# Altium schematic symbol library Components.SchLib: 216 symbols (part 1 of 2)
Pins are listed as number, name and electrical type; pins without a type are passive.

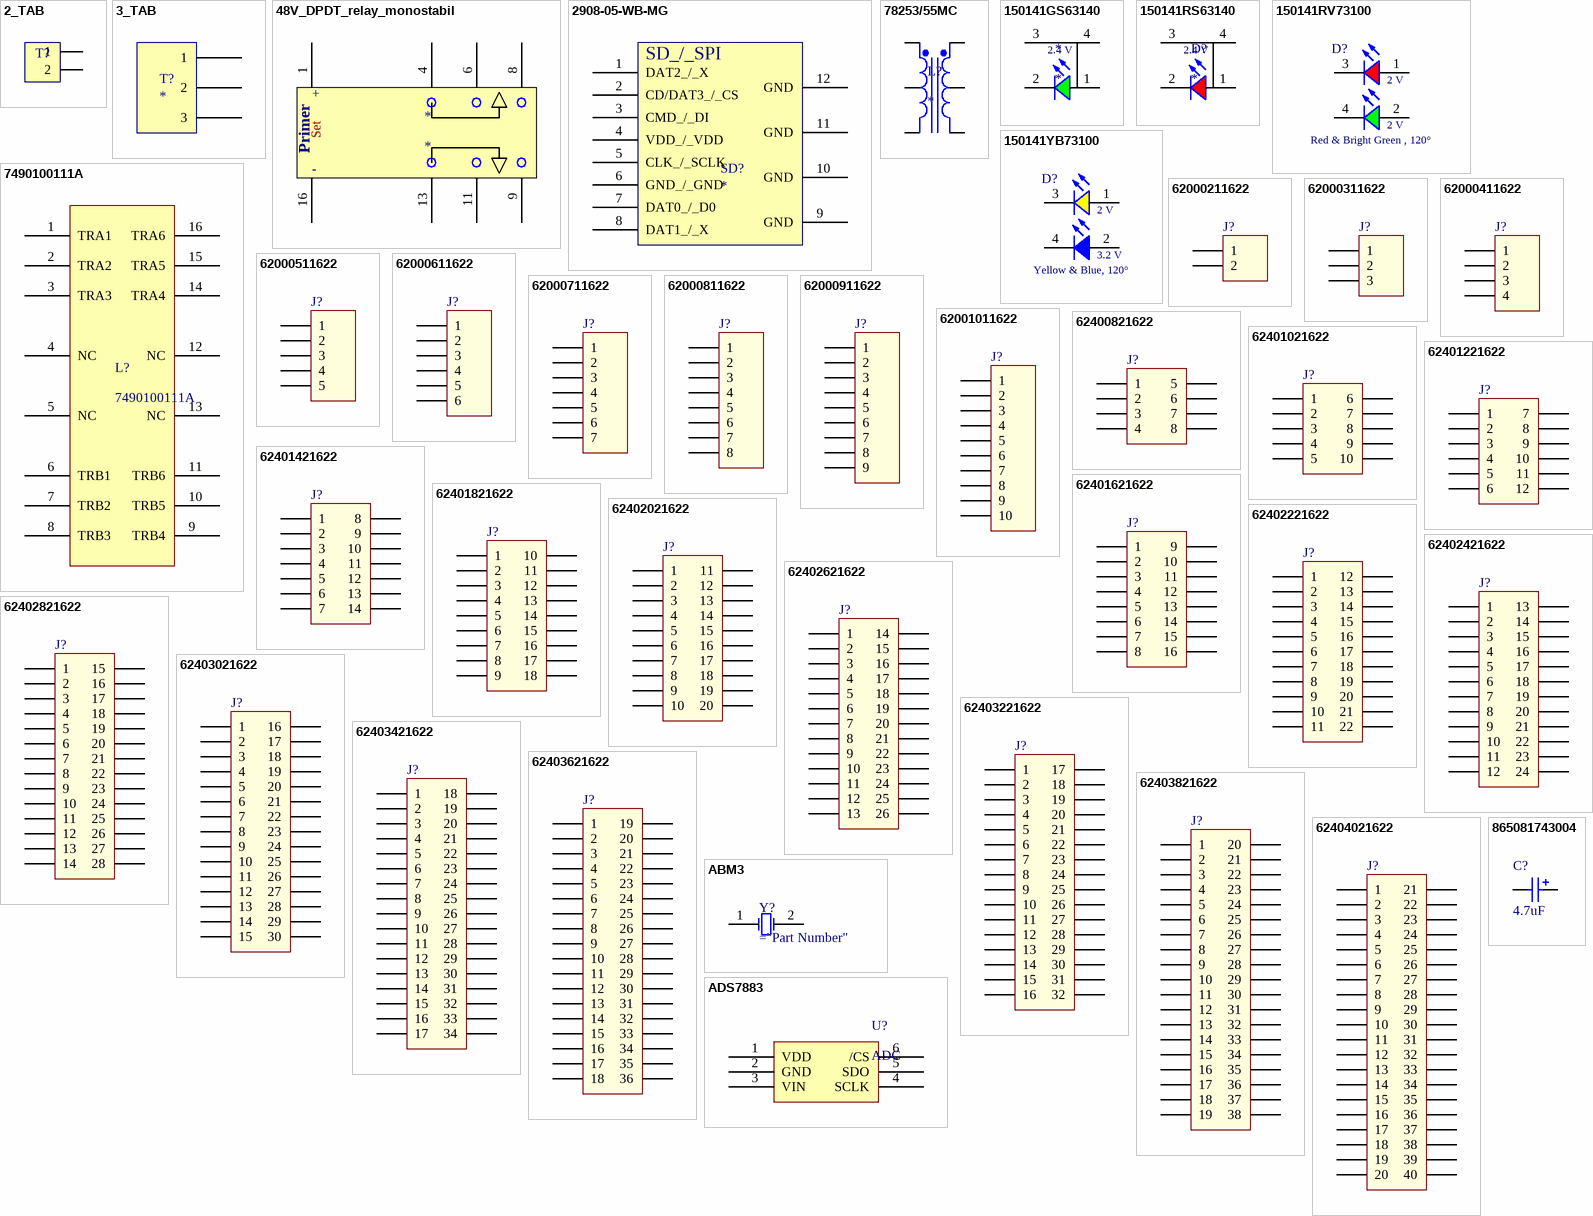
[diagram p0: symbols 2_TAB to ADS7883]

## 2_TAB
designator T?  (value not drawn)
pins: 1, 2

## 3_TAB
designator T?
footprint 3_Tab
pins: 1, 2, 3

## 48V_DPDT_relay_monostabil
designator *
footprint DPDT_48V_monostabil
pins: 1, 4, 6, 8, 9, 11, 13, 16
text: +; Set; Primer; -

## 2908-05-WB-MG
designator SD?
footprint microSD_cr
pins: 1 DAT2_/_X, 2 CD/DAT3_/_CS, 3 CMD_/_DI, 4 VDD_/_VDD, 5 CLK_/_SCLK, 6 GND_/_GND, 7 DAT0_/_D0, 8 DAT1_/_X, 9 GND, 10 GND, 11 GND, 12 GND
text: SD_/_SPI

## 78253/55MC
designator L?
pins: 1 Pri+, 2 PriCT, 3 Pri-, 4 Sec-, 5 SecCT, 6 Sec+

## 150141GS63140
designator *
footprint 150141RS63140
pins: 1 A, 2 K, 3 A, 4 A
text: 2.4 V

## 150141RS63140
designator D?
footprint 150141RS63140
pins: 1 A, 2 K, 3 A, 4 A
text: 2.4 V

## 150141RV73100
designator D?, comment Red & Bright Green , 120°
WL-SBTW SMD Bi-color TOP LED Waterclear, size 3528, Red & Bright Green , 120°; Part Number: 150141RV73100; Forward Voltage: 2 V@Red, 2 V@Bright Green; Peak Wavelength: 630 nm@Red, 572 nm@Bright Green; Dominant Wavelength: 625 nm@Red, 570 nm@Bright Green; Luminous Intensity: 250 mcd@Red, 60 mcd@Bright Green; ComponentLink1Description: Manufacturer; ComponentLink1URL: http://www.we-online.de; ComponentLink2Description: Datasheet; ComponentLink2URL: http://katalog.we-online.de/led/datasheet/150141RV73100.pdf; Published Date: May 2018; Publisher: Wurth Elektronik; Size: 3528; Viewing Angle: 120°; Operating Temperature: -40 to 85 degC; Emitting Color: Red & Bright Green; Mounting Technology: SMT
footprint WL-SBTW_3528
pins: 1 A, 2 A, 3 K, 4 K
text: 2 V

## 150141YB73100
designator D?, comment Yellow & Blue, 120°
WL-SBTW SMD Bi-color TOP LED Waterclear, size 3528, Yellow & Blue, 120°; Part Number: 150141YB73100; Forward Voltage: 3.2 V@Blue, 2 V@Yellow; Peak Wavelength: 465 nm@Blue, 592 nm@Yellow; Dominant Wavelength: 470 nm@Blue, 590 nm@Yellow; Luminous Intensity: 240 mcd@Blue, 220 mcd@Yellow; ComponentLink1Description: Manufacturer; ComponentLink1URL: http://www.we-online.de; ComponentLink2Description: Datasheet; ComponentLink2URL: http://katalog.we-online.de/led/datasheet/150141YB73100.pdf; Published Date: May 2018; Publisher: Wurth Elektronik; Size: 3528; Viewing Angle: 120°; Operating Temperature: -40 to 85 degC; Emitting Color: Yellow & Blue; Mounting Technology: SMT
footprint WL-SBTW_3528
pins: 1 A, 2 A, 3 K, 4 K
text: 2 V; 3.2 V

## 7490100111A
designator L?
LAN Transformer; Order number: 2401059; Distributor: Farnell; Link: http://hu.farnell.com/wurth-elektronik/7490100111a/lan-transformer-10-100-base-t/dp/2401059?ost=7490100111
footprint WE_LAN (SOP, 16-Leads, Body 12,80x5,30mm, Pitch 1,27mm, IPC Medium Density)
pins: 1 TRA1, 2 TRA2, 3 TRA3, 4 NC, 5 NC, 6 TRB1, 7 TRB2, 8 TRB3, 9 TRB4, 10 TRB5, 11 TRB6, 12 NC, 13 NC, 14 TRA4, 15 TRA5, 16 TRA6

## 62000211622
designator J?
WR-WTB 2.00mm Male Vertical Shrouded Header, 2p; Part Number: 62000211622; Pin Number: 2; ComponentLink1Description: Manufacturer; ComponentLink1URL: http://www.we-online.de; ComponentLink2Description: Datasheet; ComponentLink2URL: http://katalog.we-online.de/em/datasheet/6200xx11622.pdf; Published Date: June 2017; Publisher: Wurth Elektronik; Pitch: 2.00 mm
footprint 62000211622 (2.00mm Male Vertical Shrouded Header, 2p)
pins: 1, 2

## 62000311622
designator J?
WR-WTB 2.00mm Male Vertical Shrouded Header, 3p; Part Number: 62000311622; Pin Number: 3; ComponentLink1Description: Manufacturer; ComponentLink1URL: http://www.we-online.de; ComponentLink2Description: Datasheet; ComponentLink2URL: http://katalog.we-online.de/em/datasheet/6200xx11622.pdf; Published Date: June 2017; Publisher: Wurth Elektronik; Pitch: 2.00 mm
footprint 62000311622 (2.00mm Male Vertical Shrouded Header, 3p)
pins: 1, 2, 3

## 62000411622
designator J?
WR-WTB 2.00mm Male Vertical Shrouded Header, 4p; Part Number: 62000411622; Pin Number: 4; ComponentLink1Description: Manufacturer; ComponentLink1URL: http://www.we-online.de; ComponentLink2Description: Datasheet; ComponentLink2URL: http://katalog.we-online.de/em/datasheet/6200xx11622.pdf; Published Date: June 2017; Publisher: Wurth Elektronik; Pitch: 2.00 mm
footprint 62000411622 (2.00mm Male Vertical Shrouded Header, 4p)
pins: 1, 2, 3, 4

## 62000511622
designator J?
WR-WTB 2.00mm Male Vertical Shrouded Header, 5p; Part Number: 62000511622; Pin Number: 5; ComponentLink1Description: Manufacturer; ComponentLink1URL: http://www.we-online.de; ComponentLink2Description: Datasheet; ComponentLink2URL: http://katalog.we-online.de/em/datasheet/6200xx11622.pdf; Published Date: June 2017; Publisher: Wurth Elektronik; Pitch: 2.00 mm
footprint 62000511622 (2.00mm Male Vertical Shrouded Header, 5p)
pins: 1, 2, 3, 4, 5

## 62000611622
designator J?
WR-WTB 2.00mm Male Vertical Shrouded Header, 6p; Part Number: 62000611622; Pin Number: 6; ComponentLink1Description: Manufacturer; ComponentLink1URL: http://www.we-online.de; ComponentLink2Description: Datasheet; ComponentLink2URL: http://katalog.we-online.de/em/datasheet/6200xx11622.pdf; Published Date: June 2017; Publisher: Wurth Elektronik; Pitch: 2.00 mm
footprint 62000611622 (2.00mm Male Vertical Shrouded Header, 6p)
pins: 1, 2, 3, 4, 5, 6

## 62000711622
designator J?
WR-WTB 2.00mm Male Vertical Shrouded Header, 7p; Part Number: 62000711622; Pin Number: 7; ComponentLink1Description: Manufacturer; ComponentLink1URL: http://www.we-online.de; ComponentLink2Description: Datasheet; ComponentLink2URL: http://katalog.we-online.de/em/datasheet/6200xx11622.pdf; Published Date: June 2017; Publisher: Wurth Elektronik; Pitch: 2.00 mm
footprint 62000711622 (2.00mm Male Vertical Shrouded Header, 7p)
pins: 1, 2, 3, 4, 5, 6, 7

## 62000811622
designator J?
WR-WTB 2.00mm Male Vertical Shrouded Header, 8p; Part Number: 62000811622; Pin Number: 8; ComponentLink1Description: Manufacturer; ComponentLink1URL: http://www.we-online.de; ComponentLink2Description: Datasheet; ComponentLink2URL: http://katalog.we-online.de/em/datasheet/6200xx11622.pdf; Published Date: June 2017; Publisher: Wurth Elektronik; Pitch: 2.00 mm
footprint 62000811622 (2.00mm Male Vertical Shrouded Header, 8p)
pins: 1, 2, 3, 4, 5, 6, 7, 8

## 62000911622
designator J?
WR-WTB 2.00mm Male Vertical Shrouded Header, 9p; Part Number: 62000911622; Pin Number: 9; ComponentLink1Description: Manufacturer; ComponentLink1URL: http://www.we-online.de; ComponentLink2Description: Datasheet; ComponentLink2URL: http://katalog.we-online.de/em/datasheet/6200xx11622.pdf; Published Date: June 2017; Publisher: Wurth Elektronik; Pitch: 2.00 mm
footprint 62000911622 (2.00mm Male Vertical Shrouded Header, 9p)
pins: 1, 2, 3, 4, 5, 6, 7, 8, 9

## 62001011622
designator J?
WR-WTB 2.00mm Male Vertical Shrouded Header, 10p; Part Number: 62001011622; Pin Number: 10; ComponentLink1Description: Manufacturer; ComponentLink1URL: http://www.we-online.de; ComponentLink2Description: Datasheet; ComponentLink2URL: http://katalog.we-online.de/em/datasheet/6200xx11622.pdf; Published Date: June 2017; Publisher: Wurth Elektronik; Pitch: 2.00 mm
footprint 62001011622 (2.00mm Male Vertical Shrouded Header, 10p)
pins: 1, 2, 3, 4, 5, 6, 7, 8, 9, 10

## 62400821622
designator J?
WR-WTB 2.00mm Male Dual Row Vertical Shrouded Header with positive locking, 8p; Part Number: 62400821622; Pin Number: 8; ComponentLink1Description: Manufacturer; ComponentLink1URL: http://www.we-online.de; ComponentLink2Description: Datasheet; ComponentLink2URL: http://katalog.we-online.de/em/datasheet/6240xx21622.pdf; Published Date: June 2017; Publisher: Wurth Elektronik; Pitch: 2.00 mm
footprint 62400821622 (2.00mm Male Dual Row Vertical Shrouded Header with positive locking, 8p)
pins: 1, 2, 3, 4, 5, 6, 7, 8

## 62401021622
designator J?
WR-WTB 2.00mm Male Dual Row Vertical Shrouded Header with positive locking, 10p; Part Number: 62401021622; Pin Number: 10; ComponentLink1Description: Manufacturer; ComponentLink1URL: http://www.we-online.de; ComponentLink2Description: Datasheet; ComponentLink2URL: http://katalog.we-online.de/em/datasheet/6240xx21622.pdf; Published Date: June 2017; Publisher: Wurth Elektronik; Pitch: 2.00 mm
footprint 62401021622 (2.00mm Male Dual Row Vertical Shrouded Header with positive locking, 10p)
pins: 1, 2, 3, 4, 5, 6, 7, 8, 9, 10

## 62401221622
designator J?
WR-WTB 2.00mm Male Dual Row Vertical Shrouded Header with positive locking, 12p; Part Number: 62401221622; Pin Number: 12; ComponentLink1Description: Manufacturer; ComponentLink1URL: http://www.we-online.de; ComponentLink2Description: Datasheet; ComponentLink2URL: http://katalog.we-online.de/em/datasheet/6240xx21622.pdf; Published Date: June 2017; Publisher: Wurth Elektronik; Pitch: 2.00 mm
footprint 62401221622 (2.00mm Male Dual Row Vertical Shrouded Header with positive locking, 12p)
pins: 1, 2, 3, 4, 5, 6, 7, 8, 9, 10, 11, 12

## 62401421622
designator J?
WR-WTB 2.00mm Male Dual Row Vertical Shrouded Header with positive locking, 14p; Part Number: 62401421622; Pin Number: 14; ComponentLink1Description: Manufacturer; ComponentLink1URL: http://www.we-online.de; ComponentLink2Description: Datasheet; ComponentLink2URL: http://katalog.we-online.de/em/datasheet/6240xx21622.pdf; Published Date: June 2017; Publisher: Wurth Elektronik; Pitch: 2.00 mm
footprint 62401421622 (2.00mm Male Dual Row Vertical Shrouded Header with positive locking, 14p)
pins: 1, 2, 3, 4, 5, 6, 7, 8, 9, 10, 11, 12, 13, 14

## 62401621622
designator J?
WR-WTB 2.00mm Male Dual Row Vertical Shrouded Header with positive locking, 16p; Part Number: 62401621622; Pin Number: 16; ComponentLink1Description: Manufacturer; ComponentLink1URL: http://www.we-online.de; ComponentLink2Description: Datasheet; ComponentLink2URL: http://katalog.we-online.de/em/datasheet/6240xx21622.pdf; Published Date: June 2017; Publisher: Wurth Elektronik; Pitch: 2.00 mm
footprint 62401621622 (2.00mm Male Dual Row Vertical Shrouded Header with positive locking, 16p)
pins: 1, 2, 3, 4, 5, 6, 7, 8, 9, 10, 11, 12, 13, 14, 15, 16

## 62401821622
designator J?
WR-WTB 2.00mm Male Dual Row Vertical Shrouded Header with positive locking, 18p; Part Number: 62401821622; Pin Number: 18; ComponentLink1Description: Manufacturer; ComponentLink1URL: http://www.we-online.de; ComponentLink2Description: Datasheet; ComponentLink2URL: http://katalog.we-online.de/em/datasheet/6240xx21622.pdf; Published Date: June 2017; Publisher: Wurth Elektronik; Pitch: 2.00 mm
footprint 62401821622 (2.00mm Male Dual Row Vertical Shrouded Header with positive locking, 18p)
pins: 1, 2, 3, 4, 5, 6, 7, 8, 9, 10, 11, 12, 13, 14, 15, 16, 17, 18

## 62402021622
designator J?
WR-WTB 2.00mm Male Dual Row Vertical Shrouded Header with positive locking, 20p; Part Number: 62402021622; Pin Number: 20; ComponentLink1Description: Manufacturer; ComponentLink1URL: http://www.we-online.de; ComponentLink2Description: Datasheet; ComponentLink2URL: http://katalog.we-online.de/em/datasheet/6240xx21622.pdf; Published Date: June 2017; Publisher: Wurth Elektronik; Pitch: 2.00 mm
footprint 62402021622 (2.00mm Male Dual Row Vertical Shrouded Header with positive locking, 20p)
pins: 1, 2, 3, 4, 5, 6, 7, 8, 9, 10, 11, 12, 13, 14, 15, 16, 17, 18, 19, 20

## 62402221622
designator J?
WR-WTB 2.00mm Male Dual Row Vertical Shrouded Header with positive locking, 22p; Part Number: 62402221622; Pin Number: 22; ComponentLink1Description: Manufacturer; ComponentLink1URL: http://www.we-online.de; ComponentLink2Description: Datasheet; ComponentLink2URL: http://katalog.we-online.de/em/datasheet/6240xx21622.pdf; Published Date: June 2017; Publisher: Wurth Elektronik; Pitch: 2.00 mm
footprint 62402221622 (2.00mm Male Dual Row Vertical Shrouded Header with positive locking, 22p)
pins: 1, 2, 3, 4, 5, 6, 7, 8, 9, 10, 11, 12, 13, 14, 15, 16, 17, 18, 19, 20, 21, 22

## 62402421622
designator J?
WR-WTB 2.00mm Male Dual Row Vertical Shrouded Header with positive locking, 24p; Part Number: 62402421622; Pin Number: 24; ComponentLink1Description: Manufacturer; ComponentLink1URL: http://www.we-online.de; ComponentLink2Description: Datasheet; ComponentLink2URL: http://katalog.we-online.de/em/datasheet/6240xx21622.pdf; Published Date: June 2017; Publisher: Wurth Elektronik; Pitch: 2.00 mm
footprint 62402421622 (2.00mm Male Dual Row Vertical Shrouded Header with positive locking, 24p)
pins: 1, 2, 3, 4, 5, 6, 7, 8, 9, 10, 11, 12, 13, 14, 15, 16, 17, 18, 19, 20, 21, 22, 23, 24

## 62402621622
designator J?
WR-WTB 2.00mm Male Dual Row Vertical Shrouded Header with positive locking, 26p; Part Number: 62402621622; Pin Number: 26; ComponentLink1Description: Manufacturer; ComponentLink1URL: http://www.we-online.de; ComponentLink2Description: Datasheet; ComponentLink2URL: http://katalog.we-online.de/em/datasheet/6240xx21622.pdf; Published Date: June 2017; Publisher: Wurth Elektronik; Pitch: 2.00 mm
footprint 62402621622 (2.00mm Male Dual Row Vertical Shrouded Header with positive locking, 26p)
pins: 1, 2, 3, 4, 5, 6, 7, 8, 9, 10, 11, 12, 13, 14, 15, 16, 17, 18, 19, 20, 21, 22, 23, 24, 25, 26

## 62402821622
designator J?
WR-WTB 2.00mm Male Dual Row Vertical Shrouded Header with positive locking, 28p; Part Number: 62402821622; Pin Number: 28; ComponentLink1Description: Manufacturer; ComponentLink1URL: http://www.we-online.de; ComponentLink2Description: Datasheet; ComponentLink2URL: http://katalog.we-online.de/em/datasheet/6240xx21622.pdf; Published Date: June 2017; Publisher: Wurth Elektronik; Pitch: 2.00 mm
footprint 62402821622 (2.00mm Male Dual Row Vertical Shrouded Header with positive locking, 28p)
pins: 1, 2, 3, 4, 5, 6, 7, 8, 9, 10, 11, 12, 13, 14, 15, 16, 17, 18, 19, 20, 21, 22, 23, 24, 25, 26, 27, 28

## 62403021622
designator J?
WR-WTB 2.00mm Male Dual Row Vertical Shrouded Header with positive locking, 30p; Part Number: 62403021622; Pin Number: 30; ComponentLink1Description: Manufacturer; ComponentLink1URL: http://www.we-online.de; ComponentLink2Description: Datasheet; ComponentLink2URL: http://katalog.we-online.de/em/datasheet/6240xx21622.pdf; Published Date: June 2017; Publisher: Wurth Elektronik; Pitch: 2.00 mm
footprint 62403021622 (2.00mm Male Dual Row Vertical Shrouded Header with positive locking, 30p)
pins: 1, 2, 3, 4, 5, 6, 7, 8, 9, 10, 11, 12, 13, 14, 15, 16, 17, 18, 19, 20, 21, 22, 23, 24, 25, 26, 27, 28, 29, 30

## 62403221622
designator J?
WR-WTB 2.00mm Male Dual Row Vertical Shrouded Header with positive locking, 32p; Part Number: 62403221622; Pin Number: 32; ComponentLink1Description: Manufacturer; ComponentLink1URL: http://www.we-online.de; ComponentLink2Description: Datasheet; ComponentLink2URL: http://katalog.we-online.de/em/datasheet/6240xx21622.pdf; Published Date: June 2017; Publisher: Wurth Elektronik; Pitch: 2.00 mm
footprint 62403221622 (2.00mm Male Dual Row Vertical Shrouded Header with positive locking, 32p)
pins: 1, 2, 3, 4, 5, 6, 7, 8, 9, 10, 11, 12, 13, 14, 15, 16, 17, 18, 19, 20, 21, 22, 23, 24, 25, 26, 27, 28, 29, 30, 31, 32

## 62403421622
designator J?
WR-WTB 2.00mm Male Dual Row Vertical Shrouded Header with positive locking, 34p; Part Number: 62403421622; Pin Number: 34; ComponentLink1Description: Manufacturer; ComponentLink1URL: http://www.we-online.de; ComponentLink2Description: Datasheet; ComponentLink2URL: http://katalog.we-online.de/em/datasheet/6240xx21622.pdf; Published Date: June 2017; Publisher: Wurth Elektronik; Pitch: 2.00 mm
footprint 62403421622 (2.00mm Male Dual Row Vertical Shrouded Header with positive locking, 34p)
pins: 1, 2, 3, 4, 5, 6, 7, 8, 9, 10, 11, 12, 13, 14, 15, 16, 17, 18, 19, 20, 21, 22, 23, 24, 25, 26, 27, 28, 29, 30, 31, 32, 33, 34

## 62403621622
designator J?
WR-WTB 2.00mm Male Dual Row Vertical Shrouded Header with positive locking, 36p; Part Number: 62403621622; Pin Number: 36; ComponentLink1Description: Manufacturer; ComponentLink1URL: http://www.we-online.de; ComponentLink2Description: Datasheet; ComponentLink2URL: http://katalog.we-online.de/em/datasheet/6240xx21622.pdf; Published Date: June 2017; Publisher: Wurth Elektronik; Pitch: 2.00 mm
footprint 62403621622 (2.00mm Male Dual Row Vertical Shrouded Header with positive locking, 36p)
pins: 1, 2, 3, 4, 5, 6, 7, 8, 9, 10, 11, 12, 13, 14, 15, 16, 17, 18, 19, 20, 21, 22, 23, 24, 25, 26, 27, 28, 29, 30, 31, 32, 33, 34, 35, 36

## 62403821622
designator J?
WR-WTB 2.00mm Male Dual Row Vertical Shrouded Header with positive locking, 38p; Part Number: 62403821622; Pin Number: 38; ComponentLink1Description: Manufacturer; ComponentLink1URL: http://www.we-online.de; ComponentLink2Description: Datasheet; ComponentLink2URL: http://katalog.we-online.de/em/datasheet/6240xx21622.pdf; Published Date: June 2017; Publisher: Wurth Elektronik; Pitch: 2.00 mm
footprint 62403821622 (2.00mm Male Dual Row Vertical Shrouded Header with positive locking, 38p)
pins: 1, 2, 3, 4, 5, 6, 7, 8, 9, 10, 11, 12, 13, 14, 15, 16, 17, 18, 19, 20, 21, 22, 23, 24, 25, 26, 27, 28, 29, 30, 31, 32, 33, 34, 35, 36, 37, 38

## 62404021622
designator J?
WR-WTB 2.00mm Male Dual Row Vertical Shrouded Header with positive locking, 40p; Part Number: 62404021622; Pin Number: 40; ComponentLink1Description: Manufacturer; ComponentLink1URL: http://www.we-online.de; ComponentLink2Description: Datasheet; ComponentLink2URL: http://katalog.we-online.de/em/datasheet/6240xx21622.pdf; Published Date: June 2017; Publisher: Wurth Elektronik; Pitch: 2.00 mm
footprint 62404021622 (2.00mm Male Dual Row Vertical Shrouded Header with positive locking, 40p)
pins: 1, 2, 3, 4, 5, 6, 7, 8, 9, 10, 11, 12, 13, 14, 15, 16, 17, 18, 19, 20, 21, 22, 23, 24, 25, 26, 27, 28, 29, 30, 31, 32, 33, 34, 35, 36, 37, 38, 39, 40

## 865081743004
designator C?  value 4.7uF
WCAP-ASLI Aluminum Electrolytic Capacitors, size Ф6.3x5.5mm, 80V DC, 4.7uF; Part Number: 865081743004; Rated Voltage: 80V DC; ComponentLink1Description: Manufacturer; ComponentLink1URL: http://www.we-online.de; ComponentLink2Description: Datasheet; ComponentLink2URL: http://katalog.we-online.de/pbs/datasheet/865081743004.pdf; Published Date: June 2017; Publisher: Wurth Elektronik; Size: Ф6.3x5.5mm; Life Cycle: 2000h; Operating Temperature: -55 °C up to +105 °C
footprint WCAP-ASLI_6.3x5.5
pins: 1 P, 2 N

## ABM3
designator Y?
footprint QUARZ_3
pins: 1 OSC1, 2 OSC2

## ADS7883
designator U?, comment ADC
Value: 2.7-5.5 V; Distributor: Farnell; Type: ADS7883SBDBVT
footprint SOP6_ADS7883
pins: 1 VDD, 2 GND, 3 VIN, 4 SCLK, 5 SDO, 6 /CS

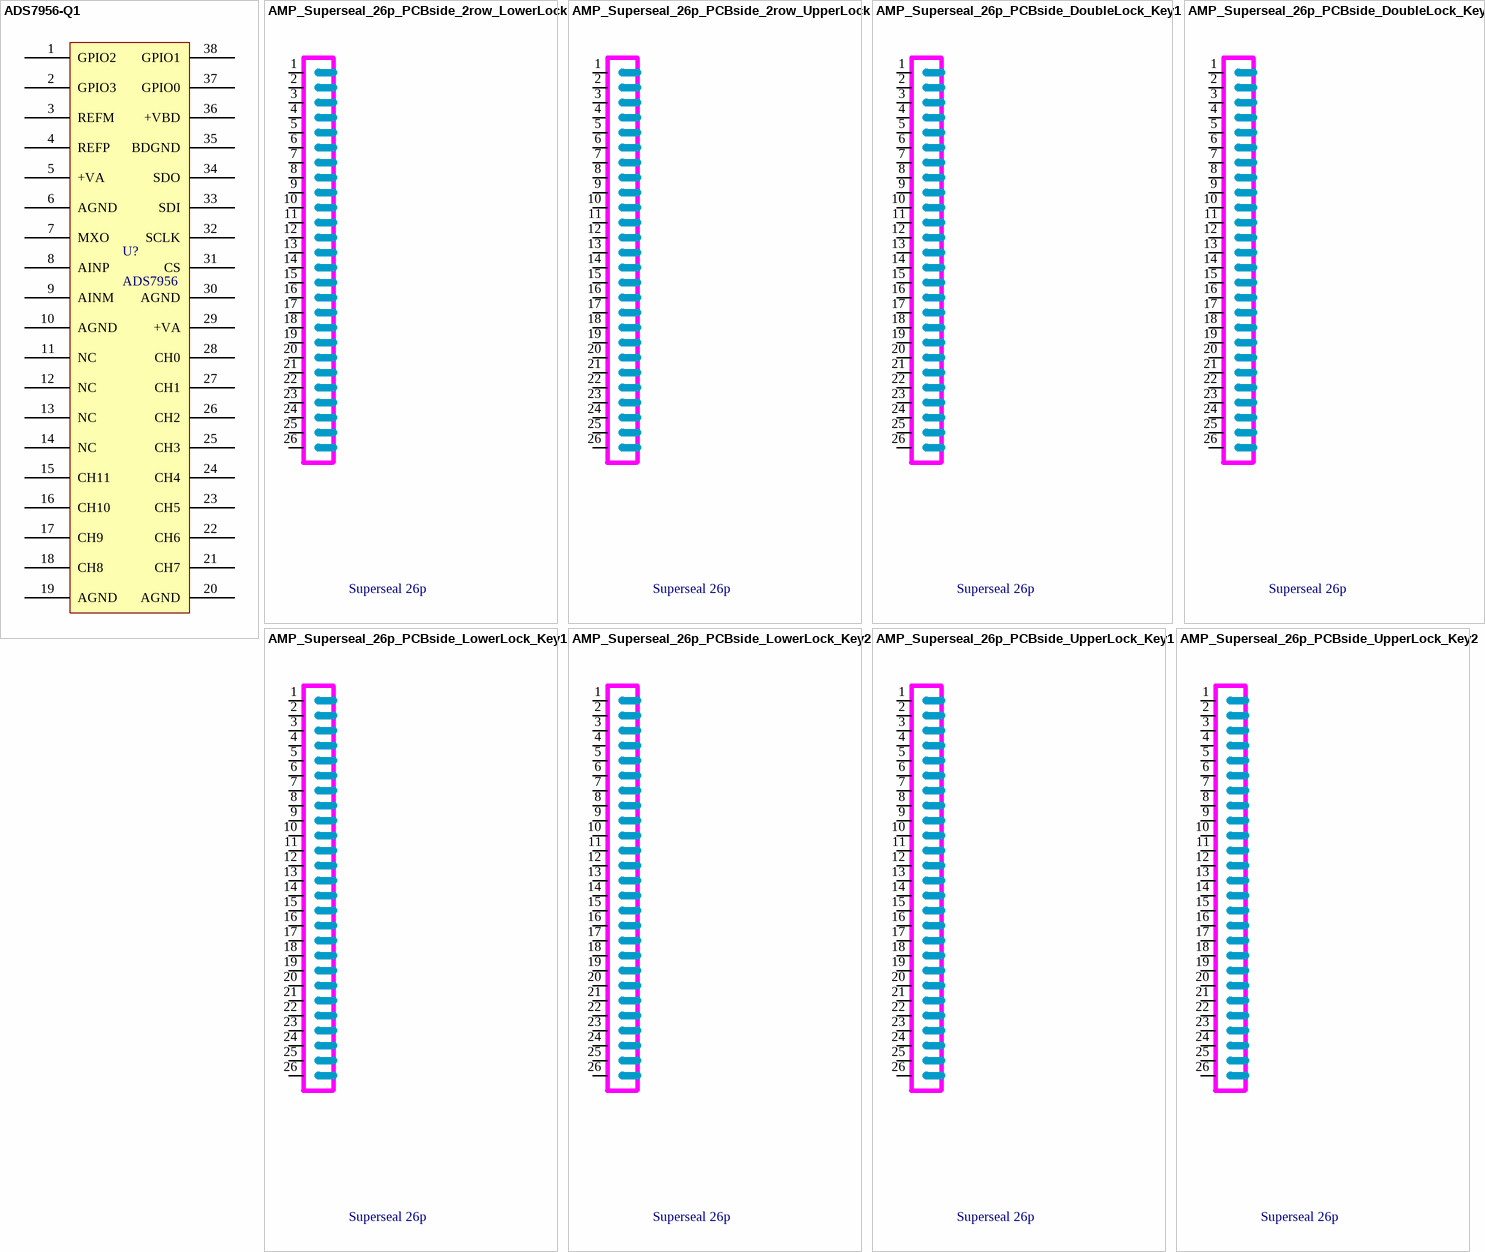
[diagram p1: symbols ADS7956-Q1 to AMP_Superseal_26p_PCBside_UpperLock_Key2]

## ADS7956-Q1
designator U?, comment ADS7956
12 channel 10bit SPI ADC
footprint TSSOP-38
pins: 1 GPIO2, 2 GPIO3, 3 REFM, 4 REFP, 5 +VA, 6 AGND, 7 MXO, 8 AINP, 9 AINM, 10 AGND, 11 NC, 12 NC, 13 NC, 14 NC, 15 CH11, 16 CH10, 17 CH9, 18 CH8, 19 AGND, 20 AGND, 21 CH7, 22 CH6, 23 CH5, 24 CH4, 25 CH3, 26 CH2, 27 CH1, 28 CH0, 29 +VA, 30 AGND, 31 CS, 32 SCLK, 33 SDI, 34 SDO, 35 BDGND, 36 +VBD, 37 GPIO0, 38 GPIO1

## AMP_Superseal_26p_PCBside_2row_LowerLock
designator ?, comment Superseal 26p
26-pin female 90°; Link: -
footprint AMP_Superseal_26p_PCBside
pins: 1, 2, 3, 4, 5, 6, 7, 8, 9, 10, 11, 12, 13, 14, 15, 16, 17, 18, 19, 20, 21, 22, 23, 24, 25, 26

## AMP_Superseal_26p_PCBside_2row_UpperLock
designator ?, comment Superseal 26p
26-pin female 90°; Link: http://hu.mouser.com/ProductDetail/TE-Connectivity/6473711-1/?qs=%2fha2pyFaduheAnAzZY2Y8xL1t1OnJIkG6htWsAoZtFI%3d
footprint AMP_Superseal_26p_PCBside
pins: 1, 2, 3, 4, 5, 6, 7, 8, 9, 10, 11, 12, 13, 14, 15, 16, 17, 18, 19, 20, 21, 22, 23, 24, 25, 26

## AMP_Superseal_26p_PCBside_DoubleLock_Key1
designator ?, comment Superseal 26p
26-pin female 90°; Link: -
footprint AMP_Superseal_26p_PCBside
pins: 1, 2, 3, 4, 5, 6, 7, 8, 9, 10, 11, 12, 13, 14, 15, 16, 17, 18, 19, 20, 21, 22, 23, 24, 25, 26

## AMP_Superseal_26p_PCBside_DoubleLock_Key2
designator ?, comment Superseal 26p
26-pin female 90°; Link: -
footprint AMP_Superseal_26p_PCBside
pins: 1, 2, 3, 4, 5, 6, 7, 8, 9, 10, 11, 12, 13, 14, 15, 16, 17, 18, 19, 20, 21, 22, 23, 24, 25, 26

## AMP_Superseal_26p_PCBside_LowerLock_Key1
designator ?, comment Superseal 26p
26-pin female 90°; Link: http://hu.mouser.com/ProductDetail/TE-Connectivity/5-6447223-0/?qs=%2fha2pyFadugaSrtBz1p3Kykm1fV5S7ts3MlqB%252bSfNmr01l6x3CZIKQ%3d%3d
footprint AMP_Superseal_26p_PCBside
pins: 1, 2, 3, 4, 5, 6, 7, 8, 9, 10, 11, 12, 13, 14, 15, 16, 17, 18, 19, 20, 21, 22, 23, 24, 25, 26

## AMP_Superseal_26p_PCBside_LowerLock_Key2
designator ?, comment Superseal 26p
26-pin female 90°; Link: http://hu.rs-online.com/web/p/jarmuipari-csatlakozok/7267011/
footprint AMP_Superseal_26p_PCBside
pins: 1, 2, 3, 4, 5, 6, 7, 8, 9, 10, 11, 12, 13, 14, 15, 16, 17, 18, 19, 20, 21, 22, 23, 24, 25, 26

## AMP_Superseal_26p_PCBside_UpperLock_Key1
designator ?, comment Superseal 26p
26-pin female 90°; Link: http://hu.mouser.com/ProductDetail/TE-Connectivity/9-6437287-8/?qs=c1ErmWplw0NzPHbjoONVkQ%3D%3D
footprint AMP_Superseal_26p_PCBside
pins: 1, 2, 3, 4, 5, 6, 7, 8, 9, 10, 11, 12, 13, 14, 15, 16, 17, 18, 19, 20, 21, 22, 23, 24, 25, 26

## AMP_Superseal_26p_PCBside_UpperLock_Key2
designator ?, comment Superseal 26p
26-pin female 90°; Link: -
footprint AMP_Superseal_26p_PCBside
pins: 1, 2, 3, 4, 5, 6, 7, 8, 9, 10, 11, 12, 13, 14, 15, 16, 17, 18, 19, 20, 21, 22, 23, 24, 25, 26

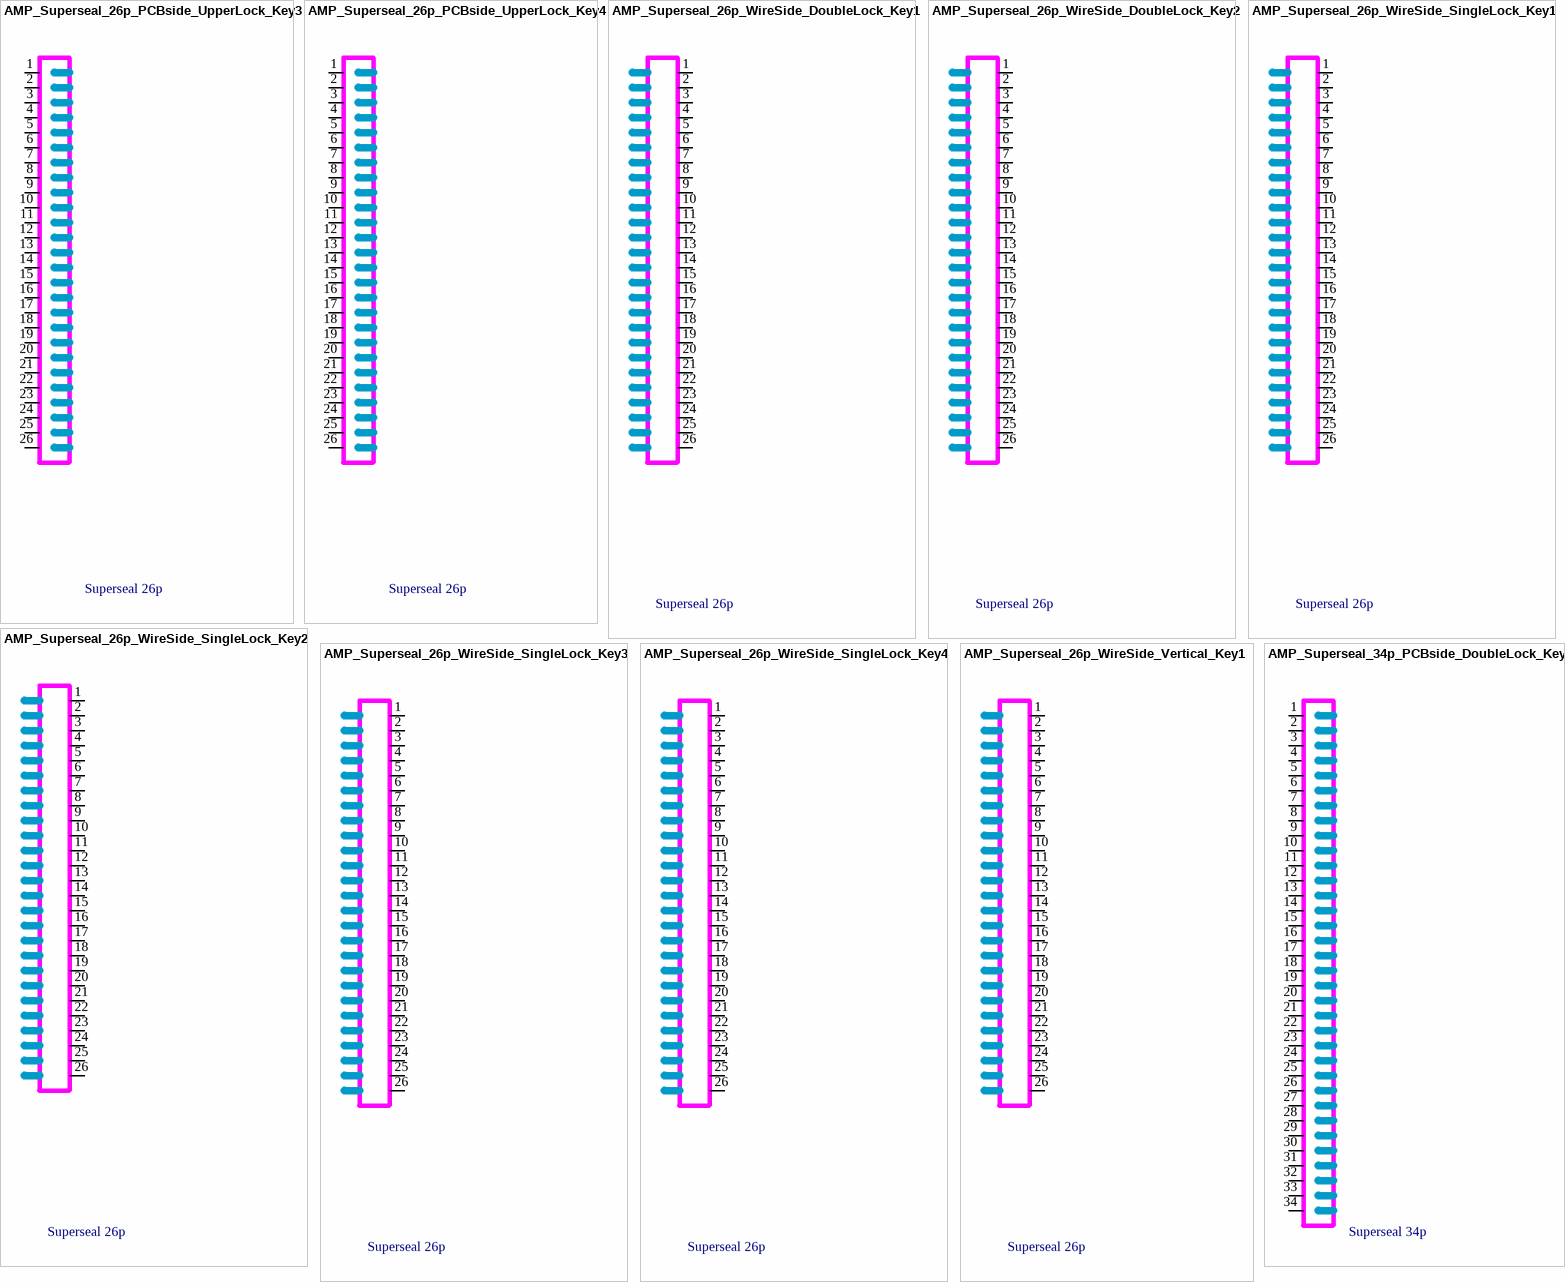
[diagram p2: symbols AMP_Superseal_26p_PCBside_UpperLock_Key3 to AMP_Superseal_34p_PCBside_DoubleLock_Key1]

## AMP_Superseal_26p_PCBside_UpperLock_Key3
designator ?, comment Superseal 26p
26-pin female 90°; Link: http://hu.mouser.com/ProductDetail/TE-Connectivity/6473423-1/?qs=%2fha2pyFadujLL66EJJj4izXF%2fFK4T0Wv5yo6JIzFFQY%3d
footprint AMP_Superseal_26p_PCBside
pins: 1, 2, 3, 4, 5, 6, 7, 8, 9, 10, 11, 12, 13, 14, 15, 16, 17, 18, 19, 20, 21, 22, 23, 24, 25, 26

## AMP_Superseal_26p_PCBside_UpperLock_Key4
designator ?, comment Superseal 26p
26-pin female 90°; Link: http://hu.mouser.com/ProductDetail/TE-Connectivity/6473423-2/?qs=%2fha2pyFadujLL66EJJj4i%252bYWEHLpIptHqxdYdAgAYZI%3d
footprint AMP_Superseal_26p_PCBside
pins: 1, 2, 3, 4, 5, 6, 7, 8, 9, 10, 11, 12, 13, 14, 15, 16, 17, 18, 19, 20, 21, 22, 23, 24, 25, 26

## AMP_Superseal_26p_WireSide_DoubleLock_Key1
designator ?, comment Superseal 26p
26-pin male; Link: http://hu.mouser.com/ProductDetail/TE-Connectivity/2-1437285-2/?qs=Xogt1k6fyayozpJGm7SMyg%3D%3D
pins: 1, 2, 3, 4, 5, 6, 7, 8, 9, 10, 11, 12, 13, 14, 15, 16, 17, 18, 19, 20, 21, 22, 23, 24, 25, 26

## AMP_Superseal_26p_WireSide_DoubleLock_Key2
designator ?, comment Superseal 26p
26-pin male; Link: http://hu.mouser.com/ProductDetail/TE-Connectivity/1-1447232-7/?qs=4GfDZFxiN8uIGFEMbzQihw%3D%3D
pins: 1, 2, 3, 4, 5, 6, 7, 8, 9, 10, 11, 12, 13, 14, 15, 16, 17, 18, 19, 20, 21, 22, 23, 24, 25, 26

## AMP_Superseal_26p_WireSide_SingleLock_Key1
designator ?, comment Superseal 26p
26-pin male; Link: http://hu.mouser.com/ProductDetail/TE-Connectivity/3-1437290-7/?qs=MvPdH6bTHug3KT6%252boOdaYA%3D%3D
pins: 1, 2, 3, 4, 5, 6, 7, 8, 9, 10, 11, 12, 13, 14, 15, 16, 17, 18, 19, 20, 21, 22, 23, 24, 25, 26

## AMP_Superseal_26p_WireSide_SingleLock_Key2
designator ?, comment Superseal 26p
26-pin male; Link: http://hu.mouser.com/ProductDetail/TE-Connectivity/3-1437290-8/?qs=%2fha2pyFadui05r4MGdH%2ffivKt%2fxc6Aud3fn8aKCDTUwDexfwysuKVg%3d%3d
pins: 1, 2, 3, 4, 5, 6, 7, 8, 9, 10, 11, 12, 13, 14, 15, 16, 17, 18, 19, 20, 21, 22, 23, 24, 25, 26

## AMP_Superseal_26p_WireSide_SingleLock_Key3
designator ?, comment Superseal 26p
26-pin male; Link: http://hu.mouser.com/ProductDetail/TE-Connectivity/1473416-1/?qs=%2fha2pyFaduhM7dIpQL5rOGJOMlTSbXIdyrdshl6NNZM%3d
pins: 1, 2, 3, 4, 5, 6, 7, 8, 9, 10, 11, 12, 13, 14, 15, 16, 17, 18, 19, 20, 21, 22, 23, 24, 25, 26

## AMP_Superseal_26p_WireSide_SingleLock_Key4
designator ?, comment Superseal 26p
26-pin male; Link: http://hu.mouser.com/ProductDetail/TE-Connectivity-AMP/1473416-2/?qs=iaprbs8w3G%2FdF2aqZdsNOQ%3D%3D
pins: 1, 2, 3, 4, 5, 6, 7, 8, 9, 10, 11, 12, 13, 14, 15, 16, 17, 18, 19, 20, 21, 22, 23, 24, 25, 26

## AMP_Superseal_26p_WireSide_Vertical_Key1
designator ?, comment Superseal 26p
26-pin male; Link: http://hu.mouser.com/ProductDetail/TE-Connectivity/1473712-1/?qs=%2fha2pyFadujGThRcnxNs5NF%2fs17tPo4hg9iKeP%2fTOwM%3d
pins: 1, 2, 3, 4, 5, 6, 7, 8, 9, 10, 11, 12, 13, 14, 15, 16, 17, 18, 19, 20, 21, 22, 23, 24, 25, 26

## AMP_Superseal_34p_PCBside_DoubleLock_Key1
designator ?, comment Superseal 34p
34-pin female 90°; Link: http://hu.mouser.com/ProductDetail/TE-Connectivity/3-6437285-0/?qs=%2fha2pyFadujv8B%2f2UownxG6307H4HBXbvvm0ljBCToIbkAnV7%2f5mxQ%3d%3d
footprint AMP_Superseal_34p_PCBside
pins: 1, 2, 3, 4, 5, 6, 7, 8, 9, 10, 11, 12, 13, 14, 15, 16, 17, 18, 19, 20, 21, 22, 23, 24, 25, 26, 27, 28, 29, 30, 31, 32, 33, 34

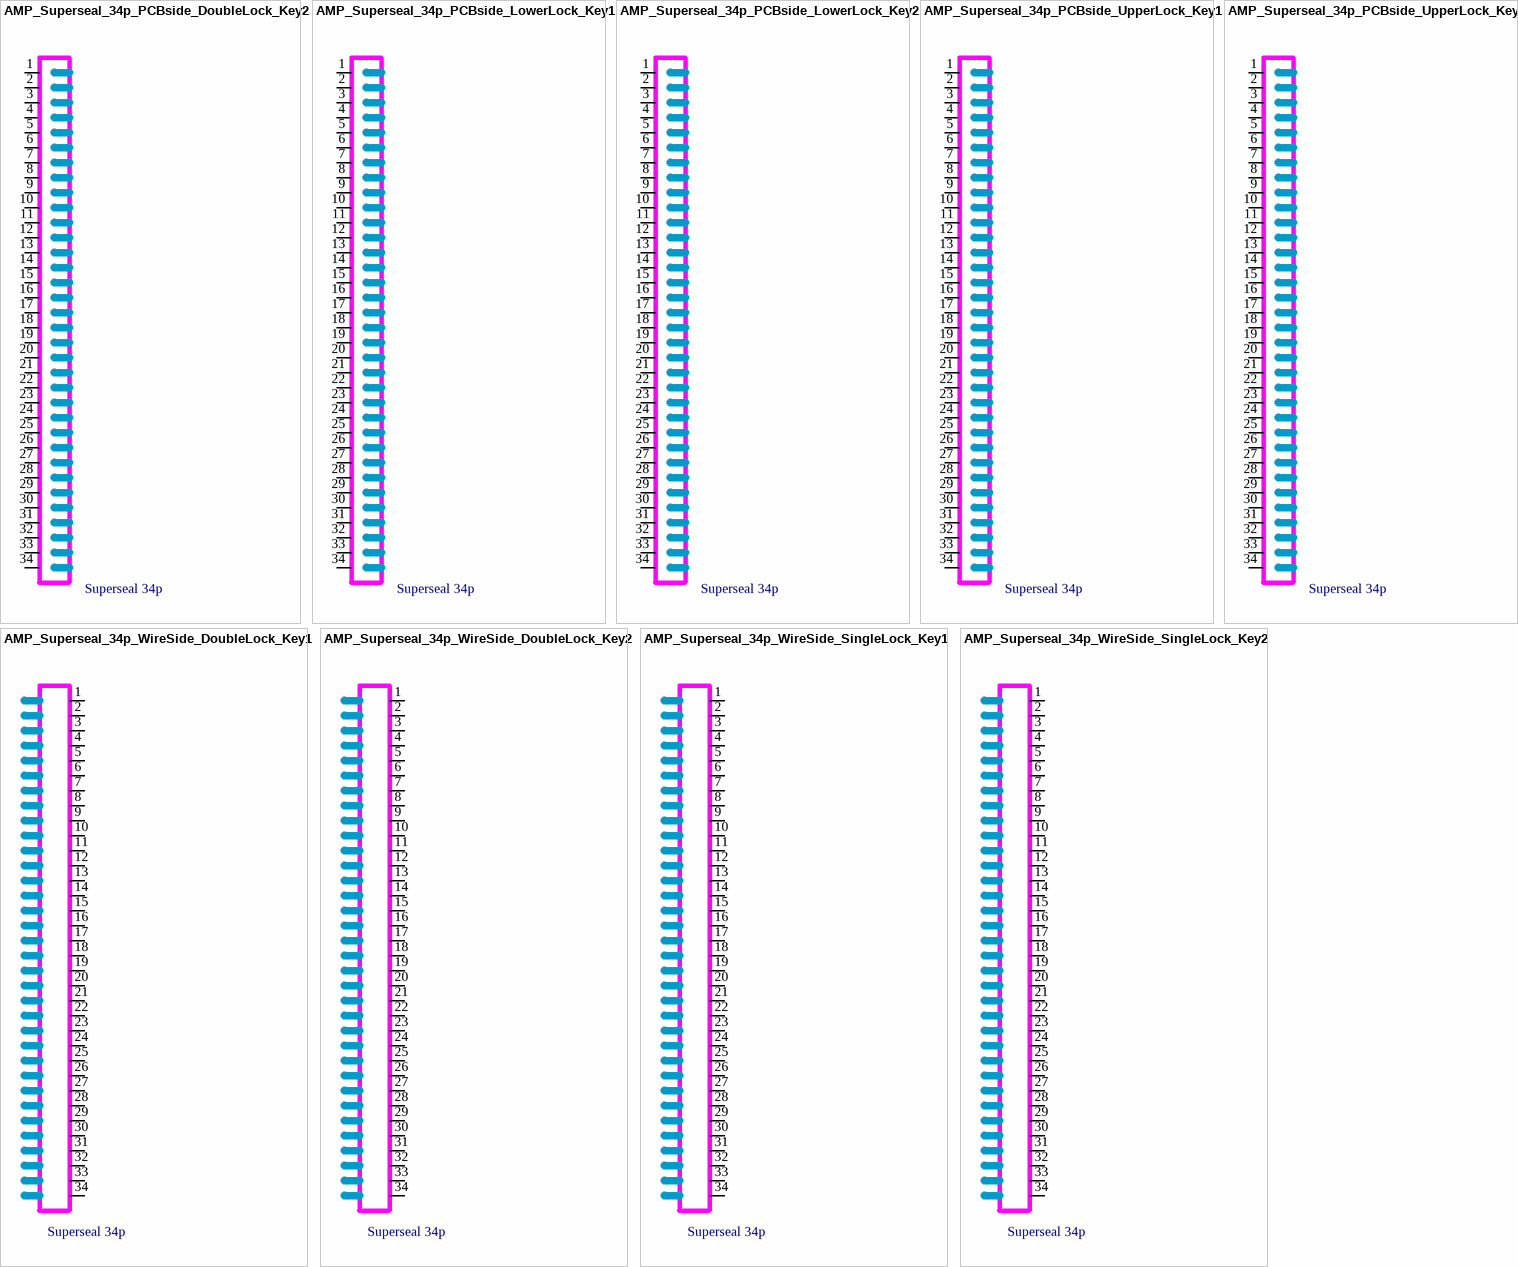
[diagram p3: symbols AMP_Superseal_34p_PCBside_DoubleLock_Key2 to AMP_Superseal_34p_WireSide_SingleLock_Key2]

## AMP_Superseal_34p_PCBside_DoubleLock_Key2
designator ?, comment Superseal 34p
34-pin female 90°; Link: http://hu.mouser.com/ProductDetail/TE-Connectivity/3-6437285-1/?qs=%2fha2pyFadujv8B%2f2UownxBwg3uizNEWkZtRhsamJynY%2fsGUXaPP0Bw%3d%3d
footprint AMP_Superseal_34p_PCBside
pins: 1, 2, 3, 4, 5, 6, 7, 8, 9, 10, 11, 12, 13, 14, 15, 16, 17, 18, 19, 20, 21, 22, 23, 24, 25, 26, 27, 28, 29, 30, 31, 32, 33, 34

## AMP_Superseal_34p_PCBside_LowerLock_Key1
designator ?, comment Superseal 34p
34-pin female 90°; Link: http://hu.mouser.com/ProductDetail/TE-Connectivity/2-6437285-5/?qs=%2fha2pyFaduiQKT7emxI8GAfa%2fnsvzEJkAIvWt4luEPa1g6m0VoQvjQ%3d%3d
footprint AMP_Superseal_34p_PCBside
pins: 1, 2, 3, 4, 5, 6, 7, 8, 9, 10, 11, 12, 13, 14, 15, 16, 17, 18, 19, 20, 21, 22, 23, 24, 25, 26, 27, 28, 29, 30, 31, 32, 33, 34

## AMP_Superseal_34p_PCBside_LowerLock_Key2
designator ?, comment Superseal 34p
34-pin female 90°; Link: http://hu.mouser.com/ProductDetail/TE-Connectivity/2-6437285-6/?qs=%2fha2pyFaduiQKT7emxI8GPmgPHSycbHDgfRsvZmDK8mdW4KyxmTZGw%3d%3d
footprint AMP_Superseal_34p_PCBside
pins: 1, 2, 3, 4, 5, 6, 7, 8, 9, 10, 11, 12, 13, 14, 15, 16, 17, 18, 19, 20, 21, 22, 23, 24, 25, 26, 27, 28, 29, 30, 31, 32, 33, 34

## AMP_Superseal_34p_PCBside_UpperLock_Key1
designator ?, comment Superseal 34p
34-pin female 90°; Link: http://hu.mouser.com/ProductDetail/TE-Connectivity/6437288-1/?qs=%2fha2pyFaduhPx9tbpowZF1%252b81ZPLwbjlb6ra6YzCOnM%3d
footprint AMP_Superseal_34p_PCBside
pins: 1, 2, 3, 4, 5, 6, 7, 8, 9, 10, 11, 12, 13, 14, 15, 16, 17, 18, 19, 20, 21, 22, 23, 24, 25, 26, 27, 28, 29, 30, 31, 32, 33, 34

## AMP_Superseal_34p_PCBside_UpperLock_Key2
designator ?, comment Superseal 34p
34-pin female 90°; Link: http://hu.rs-online.com/web/p/jarmuipari-csatlakozok/7267027/
footprint AMP_Superseal_34p_PCBside
pins: 1, 2, 3, 4, 5, 6, 7, 8, 9, 10, 11, 12, 13, 14, 15, 16, 17, 18, 19, 20, 21, 22, 23, 24, 25, 26, 27, 28, 29, 30, 31, 32, 33, 34

## AMP_Superseal_34p_WireSide_DoubleLock_Key1
designator ?, comment Superseal 34p
34-pin male; Link: http://hu.mouser.com/ProductDetail/TE-Connectivity/2-1437285-3/?qs=Xogt1k6fyaznlFourkdtvA==
pins: 1, 2, 3, 4, 5, 6, 7, 8, 9, 10, 11, 12, 13, 14, 15, 16, 17, 18, 19, 20, 21, 22, 23, 24, 25, 26, 27, 28, 29, 30, 31, 32, 33, 34

## AMP_Superseal_34p_WireSide_DoubleLock_Key2
designator ?, comment Superseal 34p
34-pin male; Link: http://hu.mouser.com/ProductDetail/TE-Connectivity/3-1437290-9/?qs=4GfDZFxiN8tWrVv0XHHNaQ%3D%3D
pins: 1, 2, 3, 4, 5, 6, 7, 8, 9, 10, 11, 12, 13, 14, 15, 16, 17, 18, 19, 20, 21, 22, 23, 24, 25, 26, 27, 28, 29, 30, 31, 32, 33, 34

## AMP_Superseal_34p_WireSide_SingleLock_Key1
designator ?, comment Superseal 34p
34-pin male; Link: http://hu.mouser.com/ProductDetail/TE-Connectivity/4-1437290-0/?qs=%2fha2pyFaduiASK71Muf4nWKPRz0jCkZQECw470N5kQA%3d
pins: 1, 2, 3, 4, 5, 6, 7, 8, 9, 10, 11, 12, 13, 14, 15, 16, 17, 18, 19, 20, 21, 22, 23, 24, 25, 26, 27, 28, 29, 30, 31, 32, 33, 34

## AMP_Superseal_34p_WireSide_SingleLock_Key2
designator ?, comment Superseal 34p
34-pin male; Link: http://hu.rs-online.com/web/p/jarmuipari-csatlakozok/7267014P/
pins: 1, 2, 3, 4, 5, 6, 7, 8, 9, 10, 11, 12, 13, 14, 15, 16, 17, 18, 19, 20, 21, 22, 23, 24, 25, 26, 27, 28, 29, 30, 31, 32, 33, 34

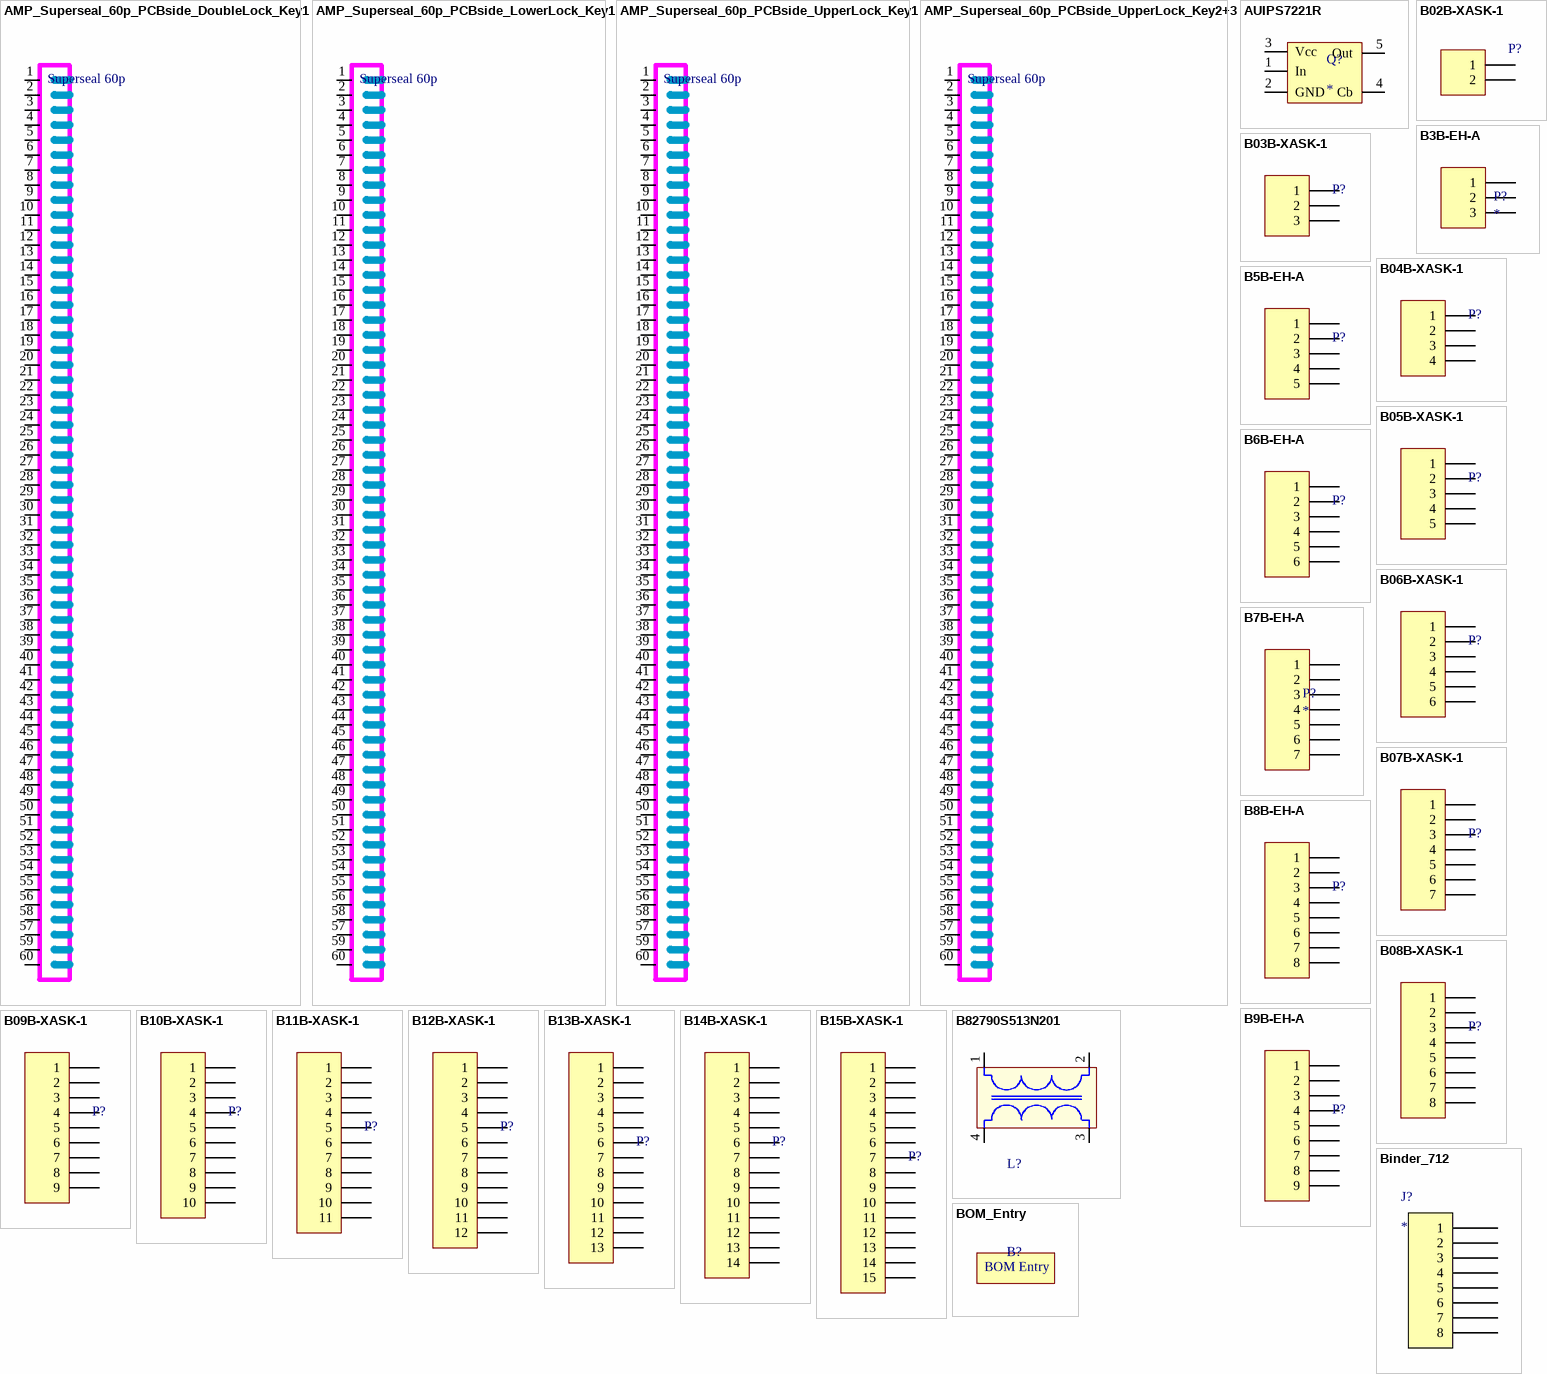
[diagram p4: symbols AMP_Superseal_60p_PCBside_DoubleLock_Key1 to BOM_Entry]

## AMP_Superseal_60p_PCBside_DoubleLock_Key1
designator ?, comment Superseal 60p
60-pin female 90°; Link: http://hu.mouser.com/ProductDetail/TE-Connectivity/3-6437285-2/?qs=%2fha2pyFadujv8B%2f2UownxO%252bbJJ64JVgYGIOkplLQEVCtzP3KpieS2w%3d%3d
footprint AMP_Superseal_60p_PCBside
pins: 1, 2, 3, 4, 5, 6, 7, 8, 9, 10, 11, 12, 13, 14, 15, 16, 17, 18, 19, 20, 21, 22, 23, 24, 25, 26, 27, 28, 29, 30, 31, 32, 33, 34, 35, 36, 37, 38, 39, 40, 41, 42, 43, 44, 45, 46, 47, 48, 49, 50, 51, 52, 53, 54, 55, 56, 57, 58, 59, 60

## AMP_Superseal_60p_PCBside_LowerLock_Key1
designator ?, comment Superseal 60p
60-pin female 90°; Link: http://hu.mouser.com/ProductDetail/TE-Connectivity/6437288-5/?qs=%2fha2pyFaduhPx9tbpowZF4HWS0zNTh%2fTHHqakmWtqTM%3d
footprint AMP_Superseal_60p_PCBside
pins: 1, 2, 3, 4, 5, 6, 7, 8, 9, 10, 11, 12, 13, 14, 15, 16, 17, 18, 19, 20, 21, 22, 23, 24, 25, 26, 27, 28, 29, 30, 31, 32, 33, 34, 35, 36, 37, 38, 39, 40, 41, 42, 43, 44, 45, 46, 47, 48, 49, 50, 51, 52, 53, 54, 55, 56, 57, 58, 59, 60

## AMP_Superseal_60p_PCBside_UpperLock_Key1
designator ?, comment Superseal 60p
60-pin female 90°; Link: http://hu.mouser.com/ProductDetail/TE-Connectivity/6437288-3/?qs=%2fha2pyFaduhPx9tbpowZF4wGUFqOUdcXZGl6S63cPis%3d
footprint AMP_Superseal_60p_PCBside
pins: 1, 2, 3, 4, 5, 6, 7, 8, 9, 10, 11, 12, 13, 14, 15, 16, 17, 18, 19, 20, 21, 22, 23, 24, 25, 26, 27, 28, 29, 30, 31, 32, 33, 34, 35, 36, 37, 38, 39, 40, 41, 42, 43, 44, 45, 46, 47, 48, 49, 50, 51, 52, 53, 54, 55, 56, 57, 58, 59, 60

## AMP_Superseal_60p_PCBside_UpperLock_Key2+3
designator ?, comment Superseal 60p
60-pin female 90°; Link: http://hu.mouser.com/ProductDetail/TE-Connectivity/6473427-1/?qs=%2fha2pyFadugUyqmKIMBQK9QE%252bvvZXb0s%2f%252bKKykaN%2fuI%3d
footprint AMP_Superseal_60p_PCBside
pins: 1, 2, 3, 4, 5, 6, 7, 8, 9, 10, 11, 12, 13, 14, 15, 16, 17, 18, 19, 20, 21, 22, 23, 24, 25, 26, 27, 28, 29, 30, 31, 32, 33, 34, 35, 36, 37, 38, 39, 40, 41, 42, 43, 44, 45, 46, 47, 48, 49, 50, 51, 52, 53, 54, 55, 56, 57, 58, 59, 60

## AUIPS7221R
designator Q?
High Side Switch
footprint DPAK-5
pins: 1 In, 2 GND, 3 Vcc, 4 Cb, 5 Out

## B02B-XASK-1
designator P?
2 pin positive lock header; Distributor: Farnell; Value: *; Order Number: *; Link: *
footprint B02B-XASK-1
pins: 1, 2

## B3B-EH-A
designator P?
footprint B3B-EH-A
pins: 1, 2, 3

## B03B-XASK-1
designator P?
3 pin positive lock header; Distributor: Farnell; Value: *; Order Number: *; Link: *
footprint B03B-XASK-1
pins: 1, 2, 3

## B04B-XASK-1
designator P?
4 pin positive lock header; Distributor: Farnell; Value: *; Order Number: *; Link: *
footprint B04B-XASK-1
pins: 1, 2, 3, 4

## B5B-EH-A
designator P?
5 pin positive lock header; Order Number: 1830716; Distributor: Farnell; Value: *; Link: http://de.farnell.com/jst-japan-solderless-terminals/b5b-eh-a/stecker-eh-top-5kont-2-5mm/dp/1830716?ost=B5B-EH-A
footprint B5B-EH-A
pins: 1, 2, 3, 4, 5

## B05B-XASK-1
designator P?
5 pin positive lock header; Distributor: Farnell; Value: *; Order Number: *; Link: *
footprint B05B-XASK-1
pins: 1, 2, 3, 4, 5

## B6B-EH-A
designator P?
6 pin positive lock header; Order Number: 2399165; Distributor: Farnell; Value: *; Link: http://de.farnell.com/jst-japan-solderless-terminals/b6b-eh-a-lf-sn/connector-header-6pos-2-5mm-1row/dp/2399165?ost=B6B-EH-A
footprint B6B-EH-A
pins: 1, 2, 3, 4, 5, 6

## B06B-XASK-1
designator P?
6 pin positive lock header; Distributor: Farnell; Value: *; Order Number: *; Link: *
footprint B06B-XASK-1
pins: 1, 2, 3, 4, 5, 6

## B7B-EH-A
designator P?
7 pin positive lock header
pins: 1, 2, 3, 4, 5, 6, 7

## B07B-XASK-1
designator P?
7 pin positive lock header; Distributor: Farnell; Value: *; Order Number: *; Link: *
footprint B07B-XASK-1
pins: 1, 2, 3, 4, 5, 6, 7

## B8B-EH-A
designator P?
8 pin positive lock header; Order Number: 1830718; Distributor: Farnell; Value: *; Link: http://de.farnell.com/jst-japan-solderless-terminals/b8b-eh-a/stecker-eh-top-8kont-2-5mm/dp/1830718?ost=B8B-EH-A
footprint B8B-EH-A
pins: 1, 2, 3, 4, 5, 6, 7, 8

## B08B-XASK-1
designator P?
8 pin positive lock header; Distributor: Farnell; Value: *; Order Number: *; Link: *
footprint B08B-XASK-1
pins: 1, 2, 3, 4, 5, 6, 7, 8

## B9B-EH-A
designator P?
9 pin positive lock header; Order Number: 2099589; Distributor: Farnell; Value: *; Link: http://de.farnell.com/jst-japan-solderless-terminals/b9b-eh-a-lf-sn/conn-header-eh-top-9pos-2-5mm/dp/2099589?ost=B9B-EH-A
footprint B9B-EH-A
pins: 1, 2, 3, 4, 5, 6, 7, 8, 9

## B09B-XASK-1
designator P?
9 pin positive lock header; Distributor: Farnell; Value: *; Order Number: *; Link: *
footprint B09B-XASK-1
pins: 1, 2, 3, 4, 5, 6, 7, 8, 9

## B10B-XASK-1
designator P?
10 pin positive lock header; Distributor: Farnell; Value: *; Order Number: *; Link: *
footprint B10B-XASK-1
pins: 1, 2, 3, 4, 5, 6, 7, 8, 9, 10

## B11B-XASK-1
designator P?
11 pin positive lock header; Distributor: Farnell; Value: *; Order Number: *; Link: *
footprint B11B-XASK-1
pins: 1, 2, 3, 4, 5, 6, 7, 8, 9, 10, 11

## B12B-XASK-1
designator P?
12 pin positive lock header; Distributor: Farnell; Value: *; Order Number: *; Link: *
footprint B12B-XASK-1
pins: 1, 2, 3, 4, 5, 6, 7, 8, 9, 10, 11, 12

## B13B-XASK-1
designator P?
13 pin positive lock header; Distributor: Farnell; Value: *; Order Number: *; Link: *
footprint B13B-XASK-1
pins: 1, 2, 3, 4, 5, 6, 7, 8, 9, 10, 11, 12, 13

## B14B-XASK-1
designator P?
14 pin positive lock header; Distributor: Farnell; Value: *; Order Number: *; Link: *
footprint B14B-XASK-1
pins: 1, 2, 3, 4, 5, 6, 7, 8, 9, 10, 11, 12, 13, 14

## B15B-XASK-1
designator P?
15 pin positive lock header; Distributor: Farnell; Value: *; Order Number: *; Link: *
footprint B15B-XASK-1
pins: 1, 2, 3, 4, 5, 6, 7, 8, 9, 10, 11, 12, 13, 14, 15

## B82790S513N201
designator L?
CAN Choke; Type: MCBS3019P-510U; Distributor: Farnell
footprint CAN_CHOKE (DFN, 4-Leads, Body 7,00x5,95mm, Pitch 2,50mm, IPC Medium Density)
pins: 1, 2, 3, 4

## Binder_712
designator J?
Binder 712
footprint 8PIN_BINDER
pins: 1, 2, 3, 4, 5, 6, 7, 8

## BOM_Entry
designator B?
text: BOM Entry

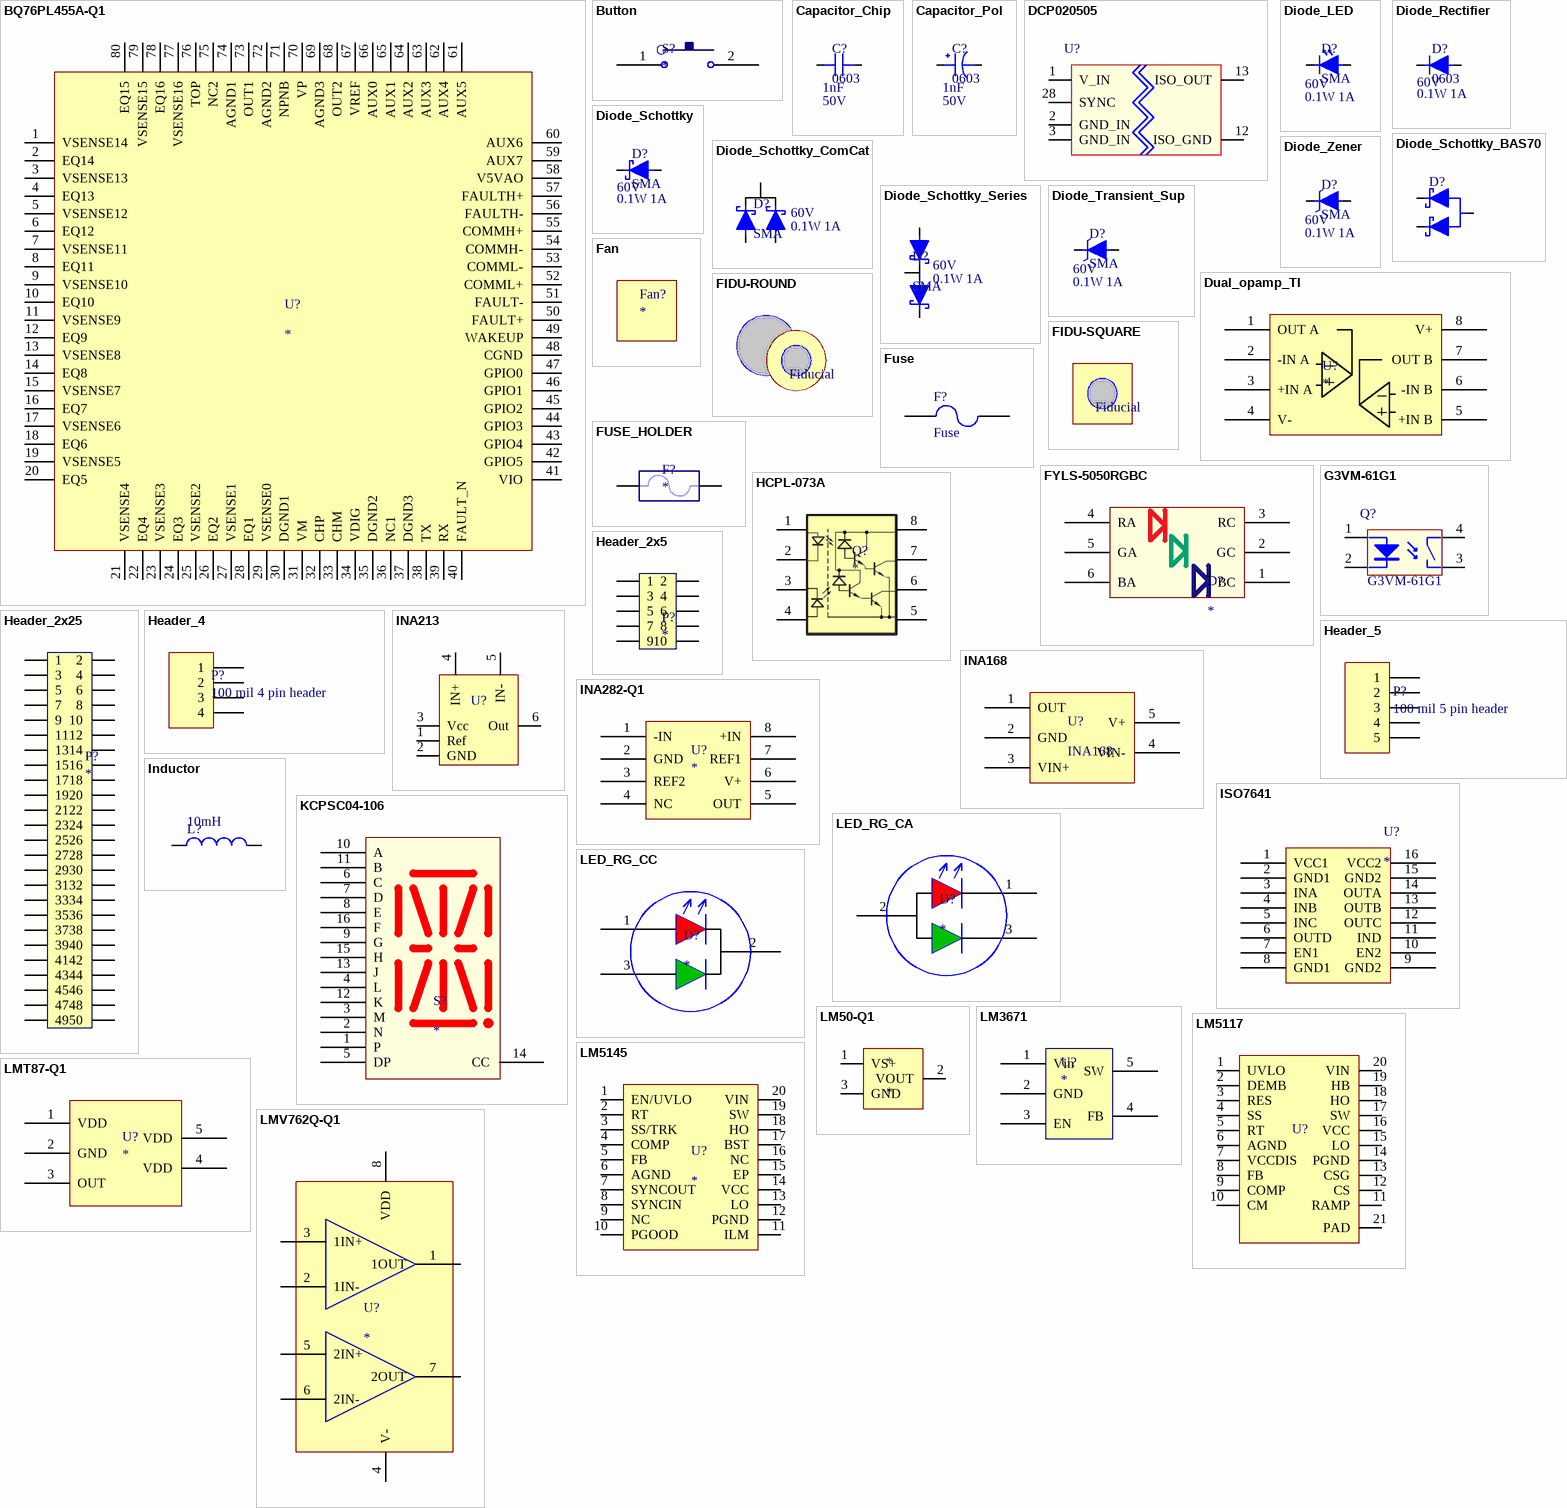
[diagram p5: symbols BQ76PL455A-Q1 to LMV762Q-Q1]

## BQ76PL455A-Q1
designator U?
Multicell Battery Monitor
pins: 1 VSENSE14, 2 EQ14, 3 VSENSE13, 4 EQ13, 5 VSENSE12, 6 EQ12, 7 VSENSE11, 8 EQ11, 9 VSENSE10, 10 EQ10, 11 VSENSE9, 12 EQ9, 13 VSENSE8, 14 EQ8, 15 VSENSE7, 16 EQ7, 17 VSENSE6, 18 EQ6, 19 VSENSE5, 20 EQ5, 21 VSENSE4, 22 EQ4, 23 VSENSE3, 24 EQ3, 25 VSENSE2, 26 EQ2, 27 VSENSE1, 28 EQ1, 29 VSENSE0, 30 DGND1, 31 VM, 32 CHP, 33 CHM, 34 VDIG, 35 DGND2, 36 NC1, 37 DGND3, 38 TX, 39 RX, 40 FAULT_N, 41 VIO, 42 GPIO5, 43 GPIO4, 44 GPIO3, 45 GPIO2, 46 GPIO1, 47 GPIO0, 48 CGND, 49 WAKEUP, 50 FAULT+, 51 FAULT-, 52 COMML+, 53 COMML-, 54 COMMH-, 55 COMMH+, 56 FAULTH-, 57 FAULTH+, 58 V5VAO, 59 AUX7, 60 AUX6, 61 AUX5, 62 AUX4, 63 AUX3, 64 AUX2, 65 AUX1, 66 AUX0, 67 VREF, 68 OUT2, 69 AGND3, 70 VP, 71 NPNB, 72 AGND2, 73 OUT1, 74 AGND1, 75 NC2, 76 TOP, 77 VSENSE16, 78 EQ16, 79 VSENSE15, 80 EQ15

## Button
designator S?
footprint Switch
pins: 1, 2

## Capacitor_Chip
designator C?, comment 0603  value 1nF  Rating: 50V
Part Number: CR-03JL7----0R; Type: Chip Capacitor; Tolerance: 10%; Order Number: 81-10-01; Distributor: Lomex; Link: http://lomex.hu/hu/webshop/#/page,0/search,81-10-01/stype,1/sidx,1; Price (HUF): 0.74; Package: 0603
footprint C_0603 (Footprint not found)
simulation model CAP (Default semiconductor resistor)
pins: 1 C1, 2 C2

## Capacitor_Pol
designator C?, comment 0603  value 1nF  Rating: 50V
Part Number: CR-03JL7----0R; Type: Chip Capacitor; Tolerance: 10%; Order Number: 81-10-01; Distributor: Lomex; Link: http://lomex.hu/hu/webshop/#/page,0/search,81-10-01/stype,1/sidx,1; Price (HUF): 0.74; Package: 0603
footprint C_0603 (Footprint not found)
simulation model CAP (Default semiconductor resistor)
pins: 1 CP, 2 CN

## DCP020505
designator U?
Power - Isolated DCDC; Value: DCP020505; Link: http://www.ti.com/lit/ds/symlink/dcp020503.pdf; Distributor: Texas Instruments; Package: SO-28; Type: IC / DCDC
footprint SOP-12
pins: 1 V_IN, 2 GND_IN, 3 GND_IN, 12 ISO_GND, 13 ISO_OUT, 28 SYNC

## Diode_LED
designator D?, comment SMA  value 60V  Rating: 0.1W 1A
Part Number: CR-03JL7----0R; Tolerance: 5%; Type: Zener Diode; Distributor: Lomex; Link: http://lomex.hu/hu/webshop/#/page,0/search,81-10-01/stype,1/sidx,1; Order Number: 81-10-01; Package: SMA; Price (HUF): 0.74
footprint LED_0603
pins: 1 DC, 2 DA

## Diode_Rectifier
designator D?, comment 0603  value 60V  Rating: 0.1W 1A
Part Number: CR-03JL7----0R; Tolerance: 5%; Type: Rectifier Diode; Distributor: Lomex; Link: http://lomex.hu/hu/webshop/#/page,0/search,81-10-01/stype,1/sidx,1; Order Number: 81-10-01; Package: 0603; Price (HUF): 0.74
footprint SMA
simulation model DIODE (Default Diode)
pins: 1 DC, 2 DA

## Diode_Schottky
designator D?, comment SMA  value 60V  Rating: 0.1W 1A
Part Number: CR-03JL7----0R; Tolerance: 5%; Type: Schottky Diode; Distributor: Lomex; Link: http://lomex.hu/hu/webshop/#/page,0/search,81-10-01/stype,1/sidx,1; Order Number: 81-10-01; Package: SMA; Price (HUF): 0.74
footprint SMA
pins: 1 DC, 2 DA

## Diode_Schottky_BAS70
designator D?
footprint SOT-23-3 (SOT23, 3-Leads, Body 2,90x2,45mm, Pitch 0,95mm, IPC Medium Density)
pins: 1 DC_1, 2 DC_2, 3 DA

## Diode_Schottky_ComCat
designator D?, comment SMA  value 60V  Rating: 0.1W 1A
Part Number: CR-03JL7----0R; Tolerance: 5%; Type: Schottky Diode; Distributor: Lomex; Link: http://lomex.hu/hu/webshop/#/page,0/search,81-10-01/stype,1/sidx,1; Order Number: 81-10-01; Package: SMA; Price (HUF): 0.74
footprint SOT-23-3 (SOT23, 3-Leads, Body 2,90x2,45mm, Pitch 0,95mm, IPC Medium Density)
pins: 1 DA1, 2 DA2, 3 DCC

## Diode_Schottky_Series
designator D?, comment SMA  value 60V  Rating: 0.1W 1A
Part Number: CR-03JL7----0R; Tolerance: 5%; Type: Schottky Diode; Distributor: Lomex; Link: http://lomex.hu/hu/webshop/#/page,0/search,81-10-01/stype,1/sidx,1; Order Number: 81-10-01; Package: SMA; Price (HUF): 0.74
footprint SOT-23-3 (SOT23, 3-Leads, Body 2,90x2,45mm, Pitch 0,95mm, IPC Medium Density)
pins: 1 DA, 2 DC, 3 DCA

## Diode_Transient_Sup
designator D?, comment SMA  value 60V  Rating: 0.1W 1A
Part Number: CR-03JL7----0R; Tolerance: 5%; Type: Zener Diode; Distributor: Lomex; Link: http://lomex.hu/hu/webshop/#/page,0/search,81-10-01/stype,1/sidx,1; Order Number: 81-10-01; Package: SMA; Price (HUF): 0.74
footprint SMA
pins: 1 DC, 2 DA

## Diode_Zener
designator D?, comment SMA  value 60V  Rating: 0.1W 1A
Part Number: CR-03JL7----0R; Tolerance: 5%; Type: Zener Diode; Distributor: Lomex; Link: http://lomex.hu/hu/webshop/#/page,0/search,81-10-01/stype,1/sidx,1; Order Number: 81-10-01; Package: SMA; Price (HUF): 0.74
footprint SOD-80
pins: 1 DC, 2 DA

## Dual_opamp_TI
designator U?
footprint SOIC-8
pins: 1 OUT A, 2 -IN A, 3 +IN A, 4 V-, 5 +IN B, 6 -IN B, 7 OUT B, 8 V+

## Fan
designator Fan?
50x50x10 FAN, 18.689m3/h
footprint 50x50x10 FAN

## FIDU-ROUND
designator F?, comment Fiducial
footprint FIDU-ROUND

## FIDU-SQUARE
designator F?, comment Fiducial
footprint FIDU-SQUARE

## Fuse
designator F?
footprint PIN-W2/E2.8 (Thru-Hole; 2 Leads)
simulation model FUSE (Spice Subcircuit)
pins: 1, 2

## FUSE_HOLDER
designator F?
footprint FUSE_HOLDER_6.3x32 (6.3x32 mm fuse holder (600V), SCHURTER  0031.8231)
pins: 1, 2

## FYLS-5050RGBC
designator D?
RGB LED; Value: *; Distributor: Lomex; Link: http://lomex.hu/pdf/%28fyl%29_fyls-5050rgbc.pdf
footprint LED_RGB (FYLS-5050)
pins: 1 BC, 2 GC, 3 RC, 4 RA, 5 GA, 6 BA

## G3VM-61G1
designator Q?
SSR - Solid State Relay; Distributor: Farnell; Link: http://hu.farnell.com/omron-electronic-components/g3vm-61g1/relay-mosfet-spst-no-0-4a-60v/dp/9918990; Package: SOP4; Type: SSR; Value: G3VM-61G1
footprint G3VM-61G1 (G3VM-61G1 SSR optocoupler footprint)
pins: 1, 2, 3, 4

## HCPL-073A
designator Q?
footprint SOIC-8
pins: 1 Anode1, 2 Cathode1, 3 Cathode2, 4 Anode2, 5 GND, 6 VO2, 7 VO1, 8 VCC

## Header_2x5
designator P?
footprint Header_1.27mm_2x5_sm
pins: 1, 2, 3, 4, 5, 6, 7, 8, 9, 10

## Header_2x25
designator P?
footprint Header_1.27mm_2x25_sm
pins: 1, 2, 3, 4, 5, 6, 7, 8, 9, 10, 11, 12, 13, 14, 15, 16, 17, 18, 19, 20, 21, 22, 23, 24, 25, 26, 27, 28, 29, 30, 31, 32, 33, 34, 35, 36, 37, 38, 39, 40, 41, 42, 43, 44, 45, 46, 47, 48, 49, 50

## Header_4
designator P?, comment 100 mil 4 pin header
footprint 4pin Header
pins: 1, 2, 3, 4

## Header_5
designator P?, comment 100 mil 5 pin header
footprint 5pin Header
pins: 1, 2, 3, 4, 5

## INA168
designator U?
footprint SOT-23-5 (SOT23, 5-Leads, Body 2,90x2,80mm, Pitch 0,95mm, IPC Medium Density)
pins: 1 OUT, 2 GND, 3 VIN+, 4 VIN-, 5 V+

## INA213
designator U?
Current Shunt Monitor
footprint SOT-363
pins: 1 Ref, 2 GND, 3 Vcc, 4 IN+, 5 IN-, 6 Out

## INA282-Q1
designator U?
footprint SOIC-8
pins: 1 -IN, 2 GND, 3 REF2, 4 NC, 5 OUT, 6 V+, 7 REF1, 8 +IN

## Inductor
designator L?  value 10mH
Inductor
simulation model INDUCTOR (Inductor)
signal-integrity model Inductor
pins: 1, 2

## ISO7641
designator U?
Distributor: Farnell; Type: ISO7641FMDW
footprint SOIC-16 (SOIC, 16-Leads, Body 10,30x7,50mm, Pitch 1,27mm, IPC Medium Density)
pins: 1 VCC1, 2 GND1, 3 INA, 4 INB, 5 INC, 6 OUTD, 7 EN1, 8 GND1, 9 GND2, 10 EN2, 11 IND, 12 OUTC, 13 OUTB, 14 OUTA, 15 GND2, 16 VCC2

## KCPSC04-106
designator S?
14 Segment Display; Distributor: Lomex; Value: *; Link: http://lomex.hu/hu/webshop/#/page,0/stype,1/sidx,3/search,35-03-45
footprint LED_14SEGMENT (Footprint not found)
pins: 1 P, 2 N, 3 M, 4 L, 5 DP, 6 C, 7 D, 8 E, 9 G, 10 A, 11 B, 12 K, 13 J, 14 CC "common anode", 15 H, 16 F

## LED_RG_CA
designator D?
Common Anode RG LED; Distributor: Lomex; Order Number: 34-06-59; Value: *
footprint LED_RG (Footprint not found)
pins: 1 R, 2 GND, 3 G

## LED_RG_CC
designator D?
Common Cathode RG LED; Distributor: Lomex; Order Number: 34-06-59; Value: *
footprint LED_RG (Footprint not found)
pins: 1 R, 2 GND, 3 G

## LM50-Q1
designator *
footprint SOT-23-3 (SOT23, 3-Leads, Body 2,90x2,45mm, Pitch 0,95mm, IPC Medium Density)
pins: 1 VS+, 2 VOUT, 3 GND

## LM3671
designator U?
footprint SOT-23-5 (SOT23, 5-Leads, Body 2,90x2,80mm, Pitch 0,95mm, IPC Medium Density)
pins: 1 Vin, 2 GND, 3 EN, 4 FB, 5 SW

## LM5117
designator U?
Buck Controller
footprint HTSSOP-20
pins: 1 UVLO, 2 DEMB, 3 RES, 4 SS, 5 RT, 6 AGND, 7 VCCDIS, 8 FB, 9 COMP, 10 CM, 11 RAMP, 12 CS, 13 CSG, 14 PGND, 15 LO, 16 VCC, 17 SW, 18 HO, 19 HB, 20 VIN, 21 PAD

## LM5145
designator U?
Synchronous Buck Controller
pins: 1 EN/UVLO, 2 RT, 3 SS/TRK, 4 COMP, 5 FB, 6 AGND, 7 SYNCOUT, 8 SYNCIN, 9 NC, 10 PGOOD, 11 ILM, 12 PGND, 13 LO, 14 VCC, 15 EP, 16 NC, 17 BST, 18 HO, 19 SW, 20 VIN

## LMT87-Q1
designator U?
footprint SOT-23-5 (SOT23, 5-Leads, Body 2,90x2,80mm, Pitch 0,95mm, IPC Medium Density)
pins: 1 VDD, 2 GND, 3 OUT, 4 VDD, 5 VDD

## LMV762Q-Q1
designator U?
Precision Comparator with Push-Pull Output
footprint SOIC-8
pins: 1 1OUT, 2 1IN-, 3 1IN+, 4 V-, 5 2IN+, 6 2IN-, 7 2OUT, 8 VDD

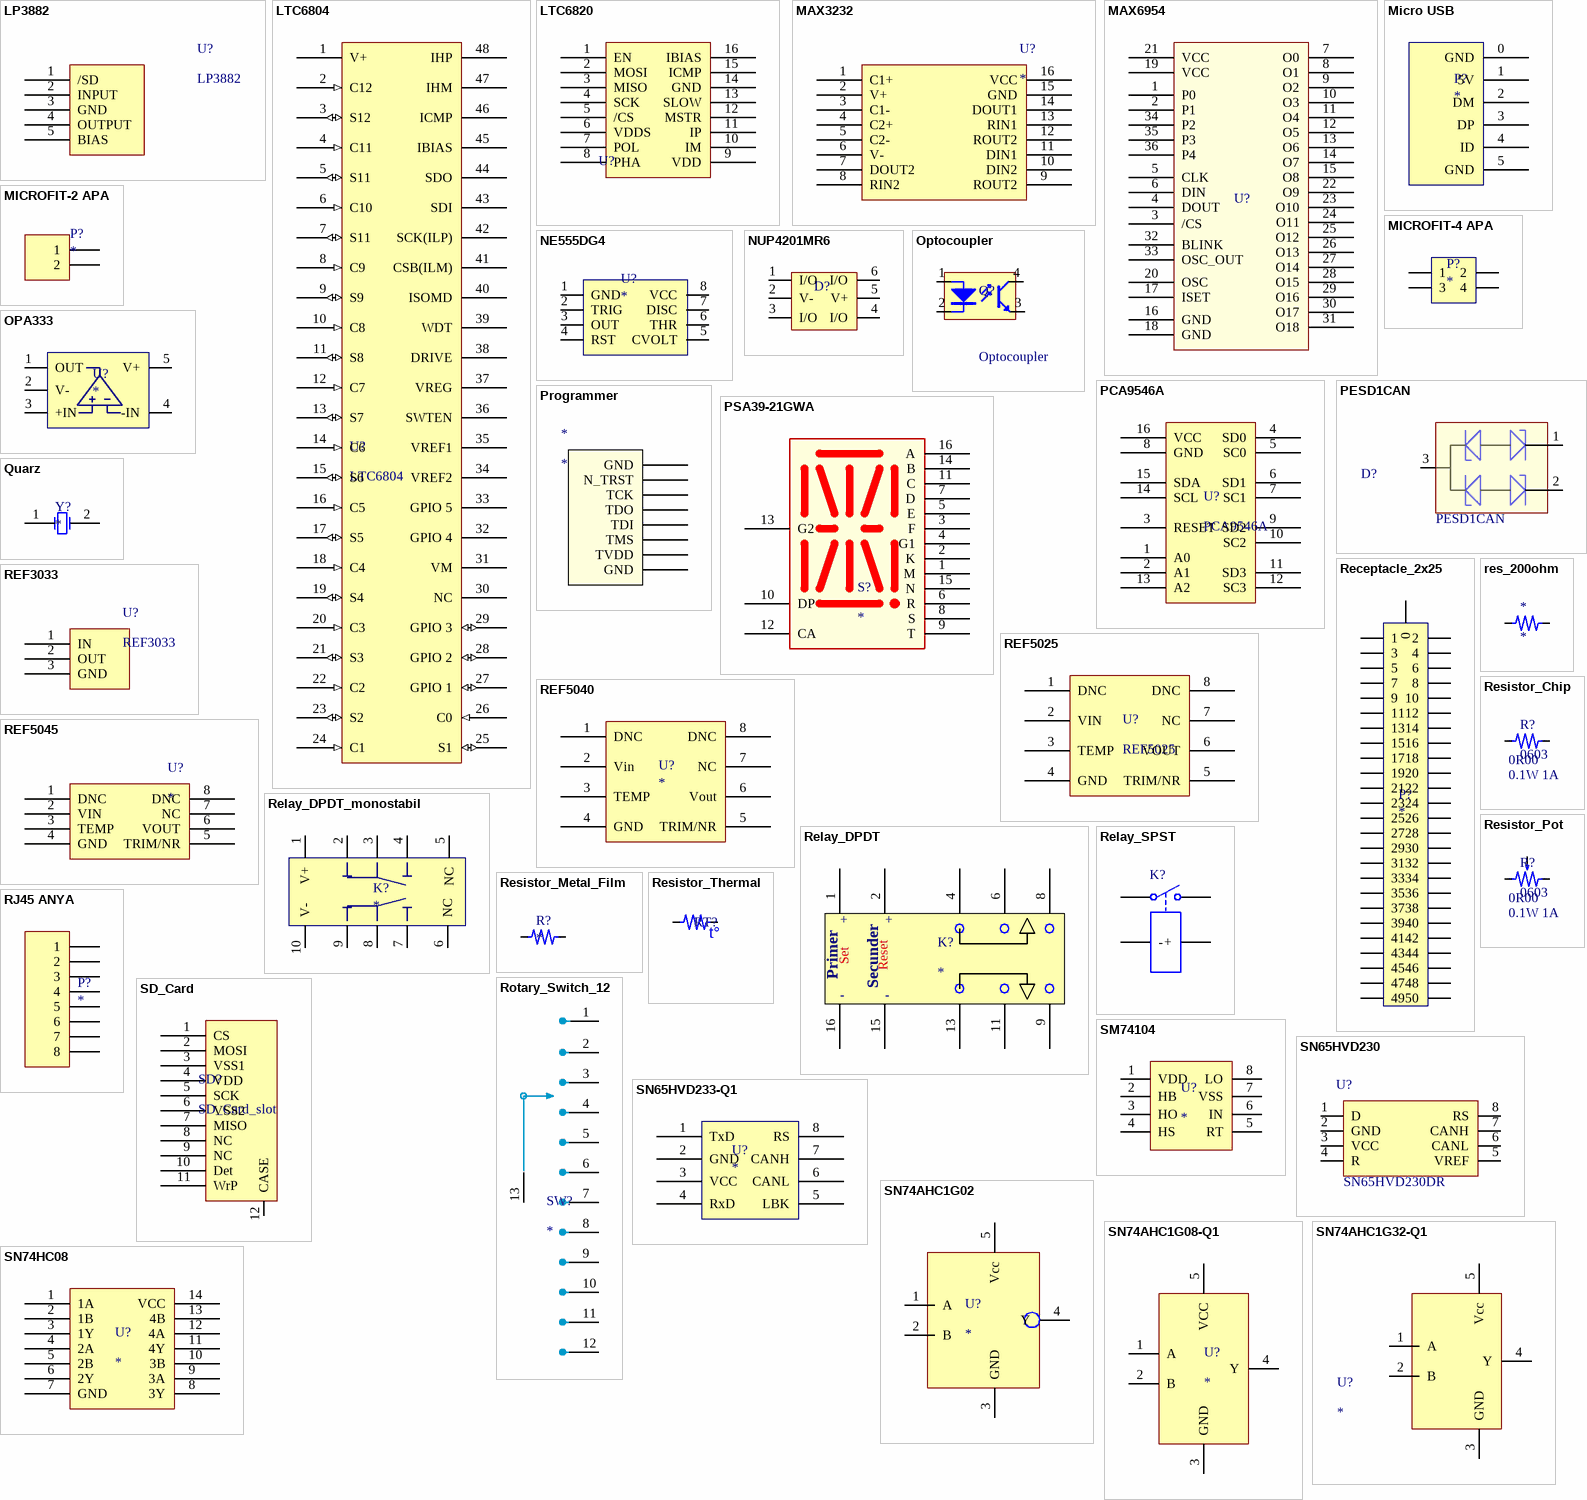
[diagram p6: symbols LP3882 to SN74HC08]

## LP3882
designator U?
LDO 1.2V; Distributor: Farnell
pins: 1 /SD, 2 INPUT, 3 GND, 4 OUTPUT, 5 BIAS

## LTC6804
designator U?
Battery Management IC; Order number: LTC6804IG-1#TRPBF-ND; Link: http://www.digikey.com/product-search/en?lang=en&site=us&vendor=0&WT.z_cid=ref_findchips0311_dkc_buynow&mpart=LTC6804IG-1%23TRPBF; Distributor: DigiKey
footprint TSSOP-48 (Footprint not found)
pins: 1 V+ (power), 2 C12 (in), 3 S12 (io), 4 C11 (in), 5 S11 (io), 6 C10 (in), 7 S11 (io), 8 C9 (in), 9 S9 (io), 10 C8 (in), 11 S8 (io), 12 C7 (in), 13 S7 (io), 14 C6 (in), 15 S6 (io), 16 C5 (in), 17 S5 (io), 18 C4 (in), 19 S4 (io), 20 C3 (in), 21 S3 (io), 22 C2 (in), 23 S2 (io), 24 C1 (in), 25 S1 (io), 26 C0 (in), 27 GPIO 1 (io), 28 GPIO 2 (io), 29 GPIO 3 (io), 30 NC, 31 VM, 32 GPIO 4, 33 GPIO 5, 34 VREF2, 35 VREF1, 36 SWTEN, 37 VREG, 38 DRIVE, 39 WDT, 40 ISOMD, 41 CSB(ILM), 42 SCK(ILP), 43 SDI, 44 SDO, 45 IBIAS, 46 ICMP, 47 IHM, 48 IHP

## LTC6820
designator U?
footprint MSOP-16
pins: 1 EN, 2 MOSI, 3 MISO, 4 SCK, 5 /CS, 6 VDDS, 7 POL, 8 PHA, 9 VDD, 10 IM, 11 IP, 12 MSTR, 13 SLOW, 14 GND, 15 ICMP, 16 IBIAS

## MAX3232
designator U?
Distributor: Farnell; Type: MAX3232EID
footprint SOIC-16 (SOIC, 16-Leads, Body 10,30x7,50mm, Pitch 1,27mm, IPC Medium Density)
pins: 1 C1+, 2 V+, 3 C1-, 4 C2+, 5 C2-, 6 V-, 7 DOUT2, 8 RIN2, 9 ROUT2, 10 DIN2, 11 DIN1, 12 ROUT2, 13 RIN1, 14 DOUT1, 15 GND, 16 VCC

## MAX6954
designator U?
16 Segment LED Driver; Distributor: Farnell; Link: http://hu.farnell.com/maxim-integrated-products/max6954aax/driver-led-16x7seg-8x16seg-128/dp/2113136?Ntt=max6954; Value: *
footprint TSSOP-36
pins: 1 P0, 2 P1, 3 /CS, 4 DOUT, 5 CLK, 6 DIN, 7 O0, 8 O1, 9 O2, 10 O3, 11 O4, 12 O5, 13 O6, 14 O7, 15 O8, 16 GND, 17 ISET, 18 GND, 19 VCC, 20 OSC, 21 VCC, 22 O9, 23 O10, 24 O11, 25 O12, 26 O13, 27 O14, 28 O15, 29 O16, 30 O17, 31 O18, 32 BLINK, 33 OSC_OUT, 34 P2, 35 P3, 36 P4

## Micro USB
designator P?
footprint USB_micro
pins: 0 GND, 1 5V, 2 DM, 3 DP, 4 ID, 5 GND

## MICROFIT-2 APA
designator P?
footprint MICROFIT-2 (Microfit 43045-0227 2 pin header, pitch: 3mm)
pins: 1, 2

## MICROFIT-4 APA
designator P?
pins: 1, 2, 3, 4

## NE555DG4
designator U?
Precision Timer
footprint SOIC-8
pins: 1 GND, 2 TRIG, 3 OUT, 4 RST, 5 CVOLT, 6 THR, 7 DISC, 8 VCC

## NUP4201MR6
designator D?
footprint SOT-23-6 (SOT23, 6-Leads, Body 2,90x3,60mm, Pitch 0,95mm, IPC High Density)
pins: 1 I/O, 2 V-, 3 I/O, 4 I/O, 5 V+, 6 I/O

## OPA333
designator U?
footprint SOT-23-5 (SOT23, 5-Leads, Body 2,90x2,80mm, Pitch 0,95mm, IPC Medium Density)
pins: 1 OUT, 2 V-, 3 +IN, 4 -IN, 5 V+

## Optocoupler
designator Q?
4-Pin Phototransistor Optocoupler
footprint SOP-4L (SOP, 4-Leads, Body 4,58x6,50mm, Pitch 2,54mm, IPC Medium Density)
pins: 1 A "Anode", 2 K "Cathode", 3 E "Emitter", 4 C "Collector"

## PCA9546A
designator U?
I2C Port Multiplexer; Order number: 2296077; Type: PCA9546A; Distributor: Farnell; Link: http://hu.farnell.com/texas-instruments/pca9546ad/multiplexer-4x1-16ohm-16soic/dp/2296077
footprint SOIC-16 (PCA9546A)
pins: 1 A0, 2 A1, 3 RESET, 4 SD0, 5 SC0, 6 SD1, 7 SC1, 8 GND, 9 SD2, 10 SC2, 11 SD3, 12 SC3, 13 A2, 14 SCL, 15 SDA, 16 VCC

## PESD1CAN
designator D?  value PESD1CAN
CAN ESD Protection; Type: Diode / ESD; Distributor: Farnell; Link: http://hu.farnell.com/nxp/pesd1can/diode-tvs-200w-24v-sot-23/dp/1510703?ost=1510703; Package: SOT23-3
footprint SOT-23-3 (SOT23, 3-Leads)
pins: 1, 2, 3

## Programmer
designator *
pins: 103 GND, 104 N_TRST, 105 TCK, 106 TDO, 107 TDI, 108 TMS, 109 TVDD, 110 GND

## PSA39-21GWA
designator S?
14 Segment Display; Distributor: Lomex; Value: *; Link: http://lomex.hu/hu/webshop/#/page,0/stype,1/sidx,3/search,35-03-45
footprint LED_14SEGMENT (Footprint not found)
pins: 1 M, 2 K, 3 F, 4 G1, 5 E, 6 R, 7 D, 8 S, 9 T, 10 DP, 11 C, 12 CA "common anode", 13 G2, 14 B, 15 N, 16 A

## Quarz
designator Y?
footprint QUARZ
pins: 1 OSC1, 2 OSC2

## Receptacle_2x25
designator P?
footprint Receptacle_1.27mm_2x25_sm
pins: 0, 1, 2, 3, 4, 5, 6, 7, 8, 9, 10, 11, 12, 13, 14, 15, 16, 17, 18, 19, 20, 21, 22, 23, 24, 25, 26, 27, 28, 29, 30, 31, 32, 33, 34, 35, 36, 37, 38, 39, 40, 41, 42, 43, 44, 45, 46, 47, 48, 49, 50

## REF3033
designator U?
3.3V Reference
footprint SOT-23-3 (SOT23, 3-Leads, Body 2,90x2,45mm, Pitch 0,95mm, IPC Medium Density)
pins: 1 IN, 2 OUT, 3 GND

## REF5025
designator U?
Value: 2.5V; Distributor: TI; Link: http://www.ti.com/lit/ds/symlink/ref5025.pdf
footprint SOIC-8
pins: 1 DNC "Do not connect", 2 VIN, 3 TEMP, 4 GND, 5 TRIM/NR, 6 VOUT, 7 NC, 8 DNC

## REF5040
designator U?
footprint SOIC-8
pins: 1 DNC, 2 Vin, 3 TEMP, 4 GND, 5 TRIM/NR, 6 Vout, 7 NC, 8 DNC

## REF5045
designator U?
Voltage Reference; Distributor: Farnell; Type: REF5050AIDG4
footprint VSSOP-8
pins: 1 DNC, 2 VIN, 3 TEMP, 4 GND, 5 TRIM/NR, 6 VOUT, 7 NC, 8 DNC

## Relay_DPDT
designator K?
Dual-Pole Dual-Throw Bistabil
footprint Relay_DPDT
pins: 1, 2, 4, 6, 8, 9, 11, 13, 15, 16
text: +; Set; Reset; Primer; Secunder; -

## Relay_DPDT_monostabil
designator K?
Dual-Pole Dual-Throw Monostabil
pins: 1 V+, 2, 3, 4, 5 NC, 6 NC, 7, 8, 9, 10 V-

## Relay_SPST
designator K?
Single-Pole Single-Throw Relay
simulation model SPSTRELAY (Spice Subcircuit)
footprint RELAY_5500 (Footprint not found)
pins: 1, 2 +, 3 -, 4

## res_200ohm
designator *
footprint R_2512 (Chip Resistor, 2-Leads, Body 6,40x3,20mm, IPC Medium Density)
pins: 1 R1, 2 R2

## Resistor_Chip
designator R?, comment 0603  value 0R00  Rating: 0.1W 1A
Part Number: CR-03JL7----0R; Tolerance: 5%; Type: Chip Resistor; Order Number: 81-10-01; Distributor: Lomex; Link: http://lomex.hu/hu/webshop/#/page,0/search,81-10-01/stype,1/sidx,1; Price (HUF): 0.74; Package: 0603
footprint R_0603 (Chip Resistor, 2-Leads, Body 1,60x0,80mm, IPC Medium Density)
simulation model RES (Default semiconductor resistor)
pins: 1 R1, 2 R2

## Resistor_Metal_Film
designator R?
footprint R_PR03 (750V voltage rating resistor)
pins: 1 R1, 2 R2

## Resistor_Pot
designator R?, comment 0603  value 0R00  Rating: 0.1W 1A
Part Number: CR-03JL7----0R; Tolerance: 5%; Type: Chip Resistor; Order Number: 81-10-01; Distributor: Lomex; Link: http://lomex.hu/hu/webshop/#/page,0/search,81-10-01/stype,1/sidx,1; Price (HUF): 0.74; Package: 0603
footprint BOURNS_3314J (1K00 3314J-1-102E (BOU) 4.5x4.5mm INDUSTRIAL CERMET SEALED [90-00-66])
simulation model RES (Default semiconductor resistor)
pins: 1 R1, 2 R2, 3 R3

## Resistor_Thermal
designator RT?
Thermistor
footprint 6-0805_N (Chip Resistor, Body 2.0x1.2mm, IPC Medium Density)
footprint 6-0805_L (Chip Resistor, Body 2.0x1.2mm, IPC High Density)
footprint 6-0805_M (Chip Resistor, Body 2.0x1.2mm, IPC Low Density)
pins: 1 R1, 2 R2
text: t°

## RJ45 ANYA
designator P?
footprint RJ45
pins: 1, 2, 3, 4, 5, 6, 7, 8

## Rotary_Switch_12
designator SW?
12 Position Rotary Switch; Value: 12 POS; Distributor: Farnell; Link: http://hu.farnell.com/grayhill/56sd30-01-1-ajs/switch-1pole-12-pos/dp/1190383
footprint ROT_SW_12
pins: 1, 2, 3, 4, 5, 6, 7, 8, 9, 10, 11, 12, 13